# Altium integrated library micro-siemens.IntLib: 88 symbols (part 2 of 3)
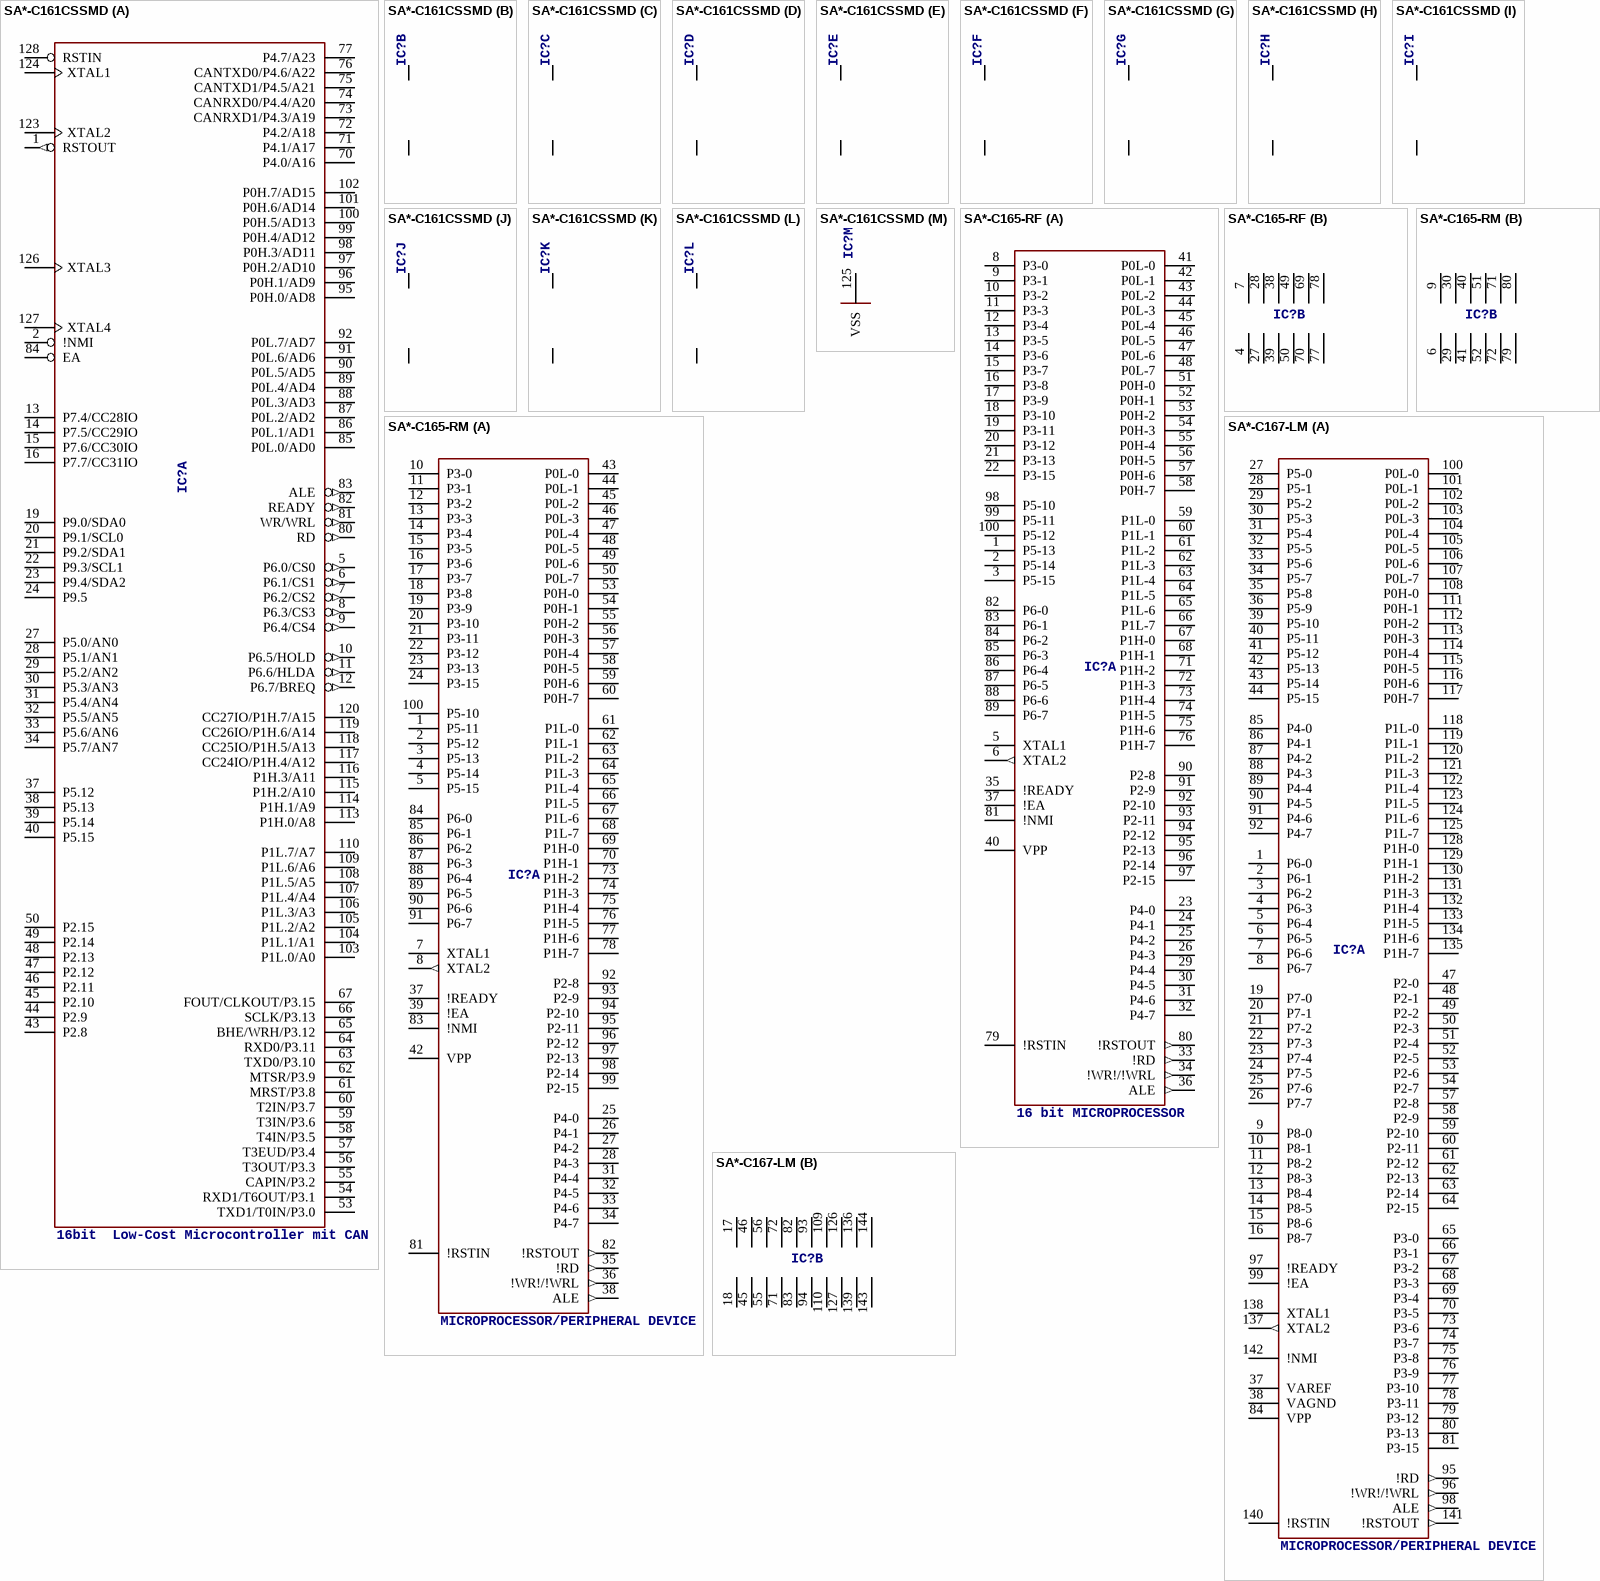
[diagram p30: symbols SA*-C161CSSMD to SA*-C167-LM]

## SA*-C165-RM
designator IC?, comment MICROPROCESSOR/PERIPHERAL DEVICE
OC_FARNELL: unknown; OC_NEWARK: unknown
footprint MQFP100
part A pins: 1 P5-11, 2 P5-12, 3 P5-13, 4 P5-14, 5 P5-15, 7 XTAL1, 8 XTAL2 (out), 10 P3-0, 11 P3-1, 12 P3-2, 13 P3-3, 14 P3-4, 15 P3-5, 16 P3-6, 17 P3-7, 18 P3-8, 19 P3-9, 20 P3-10, 21 P3-11, 22 P3-12, 23 P3-13, 24 P3-15, 25 P4-0, 26 P4-1, 27 P4-2, 28 P4-3, 31 P4-4, 32 P4-5, 33 P4-6, 34 P4-7, 35 !RD (out), 36 !WR!/!WRL (out), 37 !READY, 38 ALE (out), 39 !EA, 42 VPP, 43 P0L-0, 44 P0L-1, 45 P0L-2, 46 P0L-3, 47 P0L-4, 48 P0L-5, 49 P0L-6, 50 P0L-7, 53 P0H-0, 54 P0H-1, 55 P0H-2, 56 P0H-3, 57 P0H-4, 58 P0H-5, 59 P0H-6, 60 P0H-7, 61 P1L-0, 62 P1L-1, 63 P1L-2, 64 P1L-3, 65 P1L-4, 66 P1L-5, 67 P1L-6, 68 P1L-7, 69 P1H-0, 70 P1H-1, 73 P1H-2, 74 P1H-3, 75 P1H-4, 76 P1H-5, 77 P1H-6, 78 P1H-7, 81 !RSTIN, 82 !RSTOUT (out), 83 !NMI, 84 P6-0, 85 P6-1, 86 P6-2, 87 P6-3, 88 P6-4, 89 P6-5, 90 P6-6, 91 P6-7, 92 P2-8, 93 P2-9, 94 P2-10, 95 P2-11, 96 P2-12, 97 P2-13, 98 P2-14, 99 P2-15, 100 P5-10
part B pins: 6 VSS@1 (power), 9 VCC@1 (power), 29 VSS@2 (power), 30 VCC@2 (power), 40 VCC@3 (power), 41 VSS@3 (power), 51 VCC@4 (power), 52 VSS@4 (power), 71 VCC@5 (power), 72 VSS@5 (power), 79 VSS@6 (power), 80 VCC@6 (power)

## SA*-C167-LM
designator IC?, comment MICROPROCESSOR/PERIPHERAL DEVICE
MPN: SAK-C167CR-LM HA; OC_FARNELL: unknown; OC_NEWARK: unknown; OC_FARNELL: 1220083; OC_NEWARK: 24M7191
footprint MQFP144-RND
part A pins: 1 P6-0, 2 P6-1, 3 P6-2, 4 P6-3, 5 P6-4, 6 P6-5, 7 P6-6, 8 P6-7, 9 P8-0, 10 P8-1, 11 P8-2, 12 P8-3, 13 P8-4, 14 P8-5, 15 P8-6, 16 P8-7, 19 P7-0, 20 P7-1, 21 P7-2, 22 P7-3, 23 P7-4, 24 P7-5, 25 P7-6, 26 P7-7, 27 P5-0, 28 P5-1, 29 P5-2, 30 P5-3, 31 P5-4, 32 P5-5, 33 P5-6, 34 P5-7, 35 P5-8, 36 P5-9, 37 VAREF, 38 VAGND, 39 P5-10, 40 P5-11, 41 P5-12, 42 P5-13, 43 P5-14, 44 P5-15, 47 P2-0, 48 P2-1, 49 P2-2, 50 P2-3, 51 P2-4, 52 P2-5, 53 P2-6, 54 P2-7, 57 P2-8, 58 P2-9, 59 P2-10, 60 P2-11, 61 P2-12, 62 P2-13, 63 P2-14, 64 P2-15, 65 P3-0, 66 P3-1, 67 P3-2, 68 P3-3, 69 P3-4, 70 P3-5, 73 P3-6, 74 P3-7, 75 P3-8, 76 P3-9, 77 P3-10, 78 P3-11, 79 P3-12, 80 P3-13, 81 P3-15, 84 VPP, 85 P4-0, 86 P4-1, 87 P4-2, 88 P4-3, 89 P4-4, 90 P4-5, 91 P4-6, 92 P4-7, 95 !RD (out), 96 !WR!/!WRL (out), 97 !READY, 98 ALE (out), 99 !EA, 100 P0L-0, 101 P0L-1, 102 P0L-2, 103 P0L-3, 104 P0L-4, 105 P0L-5, 106 P0L-6, 107 P0L-7, 108 P0H-0, 111 P0H-1, 112 P0H-2, 113 P0H-3, 114 P0H-4, 115 P0H-5, 116 P0H-6, 117 P0H-7, 118 P1L-0, 119 P1L-1, 120 P1L-2, 121 P1L-3, 122 P1L-4, 123 P1L-5, 124 P1L-6, 125 P1L-7, 128 P1H-0, 129 P1H-1, 130 P1H-2, 131 P1H-3, 132 P1H-4, 133 P1H-5, 134 P1H-6, 135 P1H-7, 137 XTAL2 (out), 138 XTAL1, 140 !RSTIN, 141 !RSTOUT (out), 142 !NMI
part B pins: 17 VCC@1 (power), 18 VSS@1 (power), 45 VSS@2 (power), 46 VCC@2 (power), 55 VSS@3 (power), 56 VCC@3 (power), 71 VSS@4 (power), 72 VCC@4 (power), 82 VCC@5 (power), 83 VSS@5 (power), 93 VCC@6 (power), 94 VSS@6 (power), 109 VCC@7 (power), 110 VSS@7 (power), 126 VCC@8 (power), 127 VSS@8 (power), 136 VCC@9 (power), 139 VSS@9 (power), 143 VSS@10 (power), 144 VCC@10 (power)

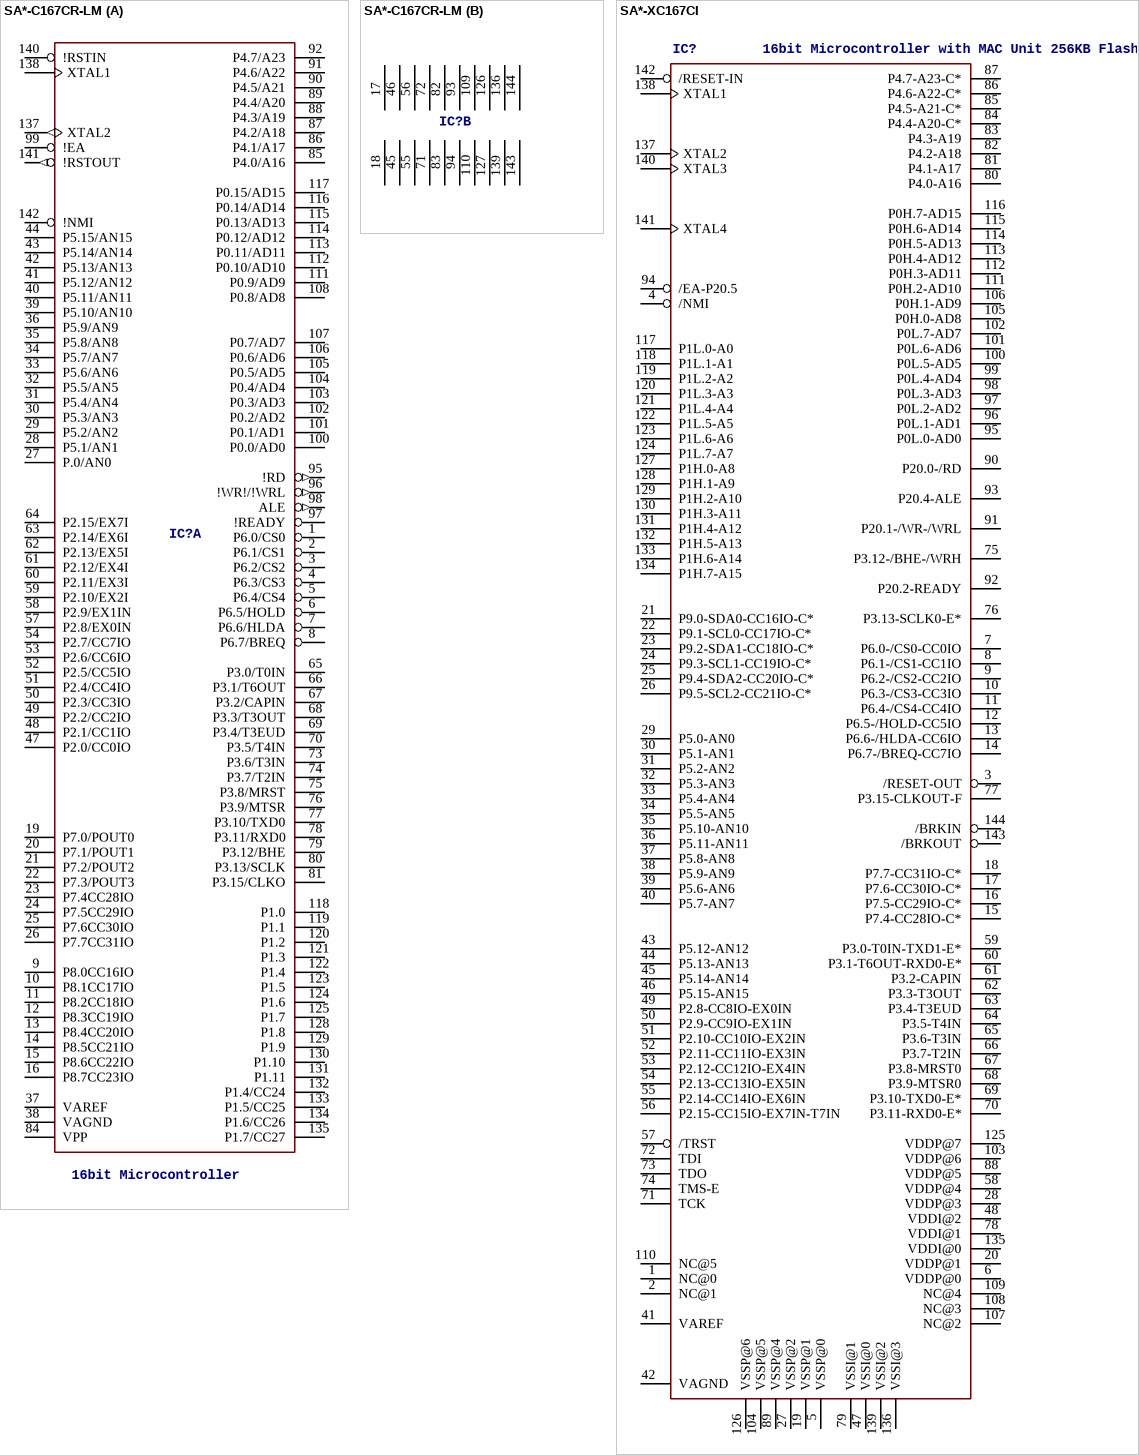
[diagram p11: symbols SA*-C167CR-LM to SA*-XC167CI]

## SA*-C167CR-LM
designator IC?, comment 16bit Microcontroller
MPN: SAK-C167CR-LM HA; OC_FARNELL: unknown; OC_NEWARK: unknown; OC_FARNELL: 1220083; OC_NEWARK: 24M7191
footprint MQFP144-RND
part A pins: 1 P6.0/CS0, 2 P6.1/CS1, 3 P6.2/CS2, 4 P6.3/CS3, 5 P6.4/CS4, 6 P6.5/HOLD, 7 P6.6/HLDA, 8 P6.7/BREQ, 9 P8.0CC16IO, 10 P8.1CC17IO, 11 P8.2CC18IO, 12 P8.3CC19IO, 13 P8.4CC20IO, 14 P8.5CC21IO, 15 P8.6CC22IO, 16 P8.7CC23IO, 19 P7.0/POUT0, 20 P7.1/POUT1, 21 P7.2/POUT2, 22 P7.3/POUT3, 23 P7.4CC28IO, 24 P7.5CC29IO, 25 P7.6CC30IO, 26 P7.7CC31IO, 27 P.0/AN0, 28 P5.1/AN1, 29 P5.2/AN2, 30 P5.3/AN3, 31 P5.4/AN4, 32 P5.5/AN5, 33 P5.6/AN6, 34 P5.7/AN7, 35 P5.8/AN8, 36 P5.9/AN9, 37 VAREF, 38 VAGND, 39 P5.10/AN10, 40 P5.11/AN11, 41 P5.12/AN12, 42 P5.13/AN13, 43 P5.14/AN14, 44 P5.15/AN15, 47 P2.0/CC0IO, 48 P2.1/CC1IO, 49 P2.2/CC2IO, 50 P2.3/CC3IO, 51 P2.4/CC4IO, 52 P2.5/CC5IO, 53 P2.6/CC6IO, 54 P2.7/CC7IO, 57 P2.8/EX0IN, 58 P2.9/EX1IN, 59 P2.10/EX2I, 60 P2.11/EX3I, 61 P2.12/EX4I, 62 P2.13/EX5I, 63 P2.14/EX6I, 64 P2.15/EX7I, 65 P3.0/T0IN, 66 P3.1/T6OUT, 67 P3.2/CAPIN, 68 P3.3/T3OUT, 69 P3.4/T3EUD, 70 P3.5/T4IN, 73 P3.6/T3IN, 74 P3.7/T2IN, 75 P3.8/MRST, 76 P3.9/MTSR, 77 P3.10/TXD0, 78 P3.11/RXD0, 79 P3.12/BHE, 80 P3.13/SCLK, 81 P3.15/CLKO, 84 VPP, 85 P4.0/A16, 86 P4.1/A17, 87 P4.2/A18, 88 P4.3/A19, 89 P4.4/A20, 90 P4.5/A21, 91 P4.6/A22, 92 P4.7/A23, 95 !RD (out), 96 !WR!/!WRL (out), 97 !READY, 98 ALE (out), 99 !EA, 100 P0.0/AD0, 101 P0.1/AD1, 102 P0.2/AD2, 103 P0.3/AD3, 104 P0.4/AD4, 105 P0.5/AD5, 106 P0.6/AD6, 107 P0.7/AD7, 108 P0.8/AD8, 111 P0.9/AD9, 112 P0.10/AD10, 113 P0.11/AD11, 114 P0.12/AD12, 115 P0.13/AD13, 116 P0.14/AD14, 117 P0.15/AD15, 118 P1.0, 119 P1.1, 120 P1.2, 121 P1.3, 122 P1.4, 123 P1.5, 124 P1.6, 125 P1.7, 128 P1.8, 129 P1.9, 130 P1.10, 131 P1.11, 132 P1.4/CC24, 133 P1.5/CC25, 134 P1.6/CC26, 135 P1.7/CC27, 137 XTAL2 (out), 138 XTAL1, 140 !RSTIN, 141 !RSTOUT (out), 142 !NMI
part B pins: 17 VCC@1 (power), 18 VSS@1 (power), 45 VSS@2 (power), 46 VCC@2 (power), 55 VSS@3 (power), 56 VCC@3 (power), 71 VSS@4 (power), 72 VCC@4 (power), 82 VCC@5 (power), 83 VSS@5 (power), 93 VCC@6 (power), 94 VSS@6 (power), 109 VCC@7 (power), 110 VSS@7 (power), 126 VCC@8 (power), 127 VSS@8 (power), 136 VCC@9 (power), 139 VSS@9 (power), 143 VSS@10 (power), 144 VCC@10 (power)

## SA*-XC167CI
designator IC?, comment 16bit Microcontroller with MAC Unit 256KB Flash
OC_FARNELL: unknown; OC_NEWARK: unknown
footprint P-TQFP144
pins: 1 NC@0, 2 NC@1, 3 /RESET-OUT, 4 /NMI, 5 VSSP@0 (power), 6 VDDP@0 (power), 7 P6.0-/CS0-CC0IO, 8 P6.1-/CS1-CC1IO, 9 P6.2-/CS2-CC2IO, 10 P6.3-/CS3-CC3IO, 11 P6.4-/CS4-CC4IO, 12 P6.5-/HOLD-CC5IO, 13 P6.6-/HLDA-CC6IO, 14 P6.7-/BREQ-CC7IO, 15 P7.4-CC28IO-C*, 16 P7.5-CC29IO-C*, 17 P7.6-CC30IO-C*, 18 P7.7-CC31IO-C*, 19 VSSP@1 (power), 20 VDDP@1 (power), 21 P9.0-SDA0-CC16IO-C*, 22 P9.1-SCL0-CC17IO-C*, 23 P9.2-SDA1-CC18IO-C*, 24 P9.3-SCL1-CC19IO-C*, 25 P9.4-SDA2-CC20IO-C*, 26 P9.5-SCL2-CC21IO-C*, 27 VSSP@2 (power), 28 VDDP@3 (power), 29 P5.0-AN0, 30 P5.1-AN1, 31 P5.2-AN2, 32 P5.3-AN3, 33 P5.4-AN4, 34 P5.5-AN5, 35 P5.10-AN10, 36 P5.11-AN11, 37 P5.8-AN8, 38 P5.9-AN9, 39 P5.6-AN6, 40 P5.7-AN7, 41 VAREF, 42 VAGND, 43 P5.12-AN12, 44 P5.13-AN13, 45 P5.14-AN14, 46 P5.15-AN15, 47 VSSI@0 (power), 48 VDDI@2 (power), 49 P2.8-CC8IO-EX0IN, 50 P2.9-CC9IO-EX1IN, 51 P2.10-CC10IO-EX2IN, 52 P2.11-CC11IO-EX3IN, 53 P2.12-CC12IO-EX4IN, 54 P2.13-CC13IO-EX5IN, 55 P2.14-CC14IO-EX6IN, 56 P2.15-CC15IO-EX7IN-T7IN, 57 /TRST, 58 VDDP@4 (power), 59 P3.0-T0IN-TXD1-E*, 60 P3.1-T6OUT-RXD0-E*, 61 P3.2-CAPIN, 62 P3.3-T3OUT, 63 P3.4-T3EUD, 64 P3.5-T4IN, 65 P3.6-T3IN, 66 P3.7-T2IN, 67 P3.8-MRST0, 68 P3.9-MTSR0, 69 P3.10-TXD0-E*, 70 P3.11-RXD0-E*, 71 TCK, 72 TDI, 73 TDO, 74 TMS-E, 75 P3.12-/BHE-/WRH, 76 P3.13-SCLK0-E*, 77 P3.15-CLKOUT-F, 78 VDDI@1 (power), 79 VSSI@1 (power), 80 P4.0-A16, 81 P4.1-A17, 82 P4.2-A18, 83 P4.3-A19, 84 P4.4-A20-C*, 85 P4.5-A21-C*, 86 P4.6-A22-C*, 87 P4.7-A23-C*, 88 VDDP@5 (power), 89 VSSP@4 (power), 90 P20.0-/RD, 91 P20.1-/WR-/WRL, 92 P20.2-READY, 93 P20.4-ALE, 94 /EA-P20.5, 95 P0L.0-AD0, 96 P0L.1-AD1, 97 P0L.2-AD2, 98 P0L.3-AD3, 99 P0L.4-AD4, 100 P0L.5-AD5, 101 P0L.6-AD6, 102 P0L.7-AD7, 103 VDDP@6 (power), 104 VSSP@5 (power), 105 P0H.0-AD8, 106 P0H.1-AD9, 107 NC@2, 108 NC@3, 109 NC@4, 110 NC@5, 111 P0H.2-AD10, 112 P0H.3-AD11, 113 P0H.4-AD12, 114 P0H.5-AD13, 115 P0H.6-AD14, 116 P0H.7-AD15, 117 P1L.0-A0, 118 P1L.1-A1, 119 P1L.2-A2, 120 P1L.3-A3, 121 P1L.4-A4, 122 P1L.5-A5, 123 P1L.6-A6, 124 P1L.7-A7, 125 VDDP@7 (power), 126 VSSP@6 (power), 127 P1H.0-A8, 128 P1H.1-A9, 129 P1H.2-A10, 130 P1H.3-A11, 131 P1H.4-A12, 132 P1H.5-A13, 133 P1H.6-A14, 134 P1H.7-A15, 135 VDDI@0 (power), 136 VSSI@3 (power), 137 XTAL2, 138 XTAL1, 139 VSSI@2 (power), 140 XTAL3, 141 XTAL4, 142 /RESET-IN, 143 /BRKOUT, 144 /BRKIN

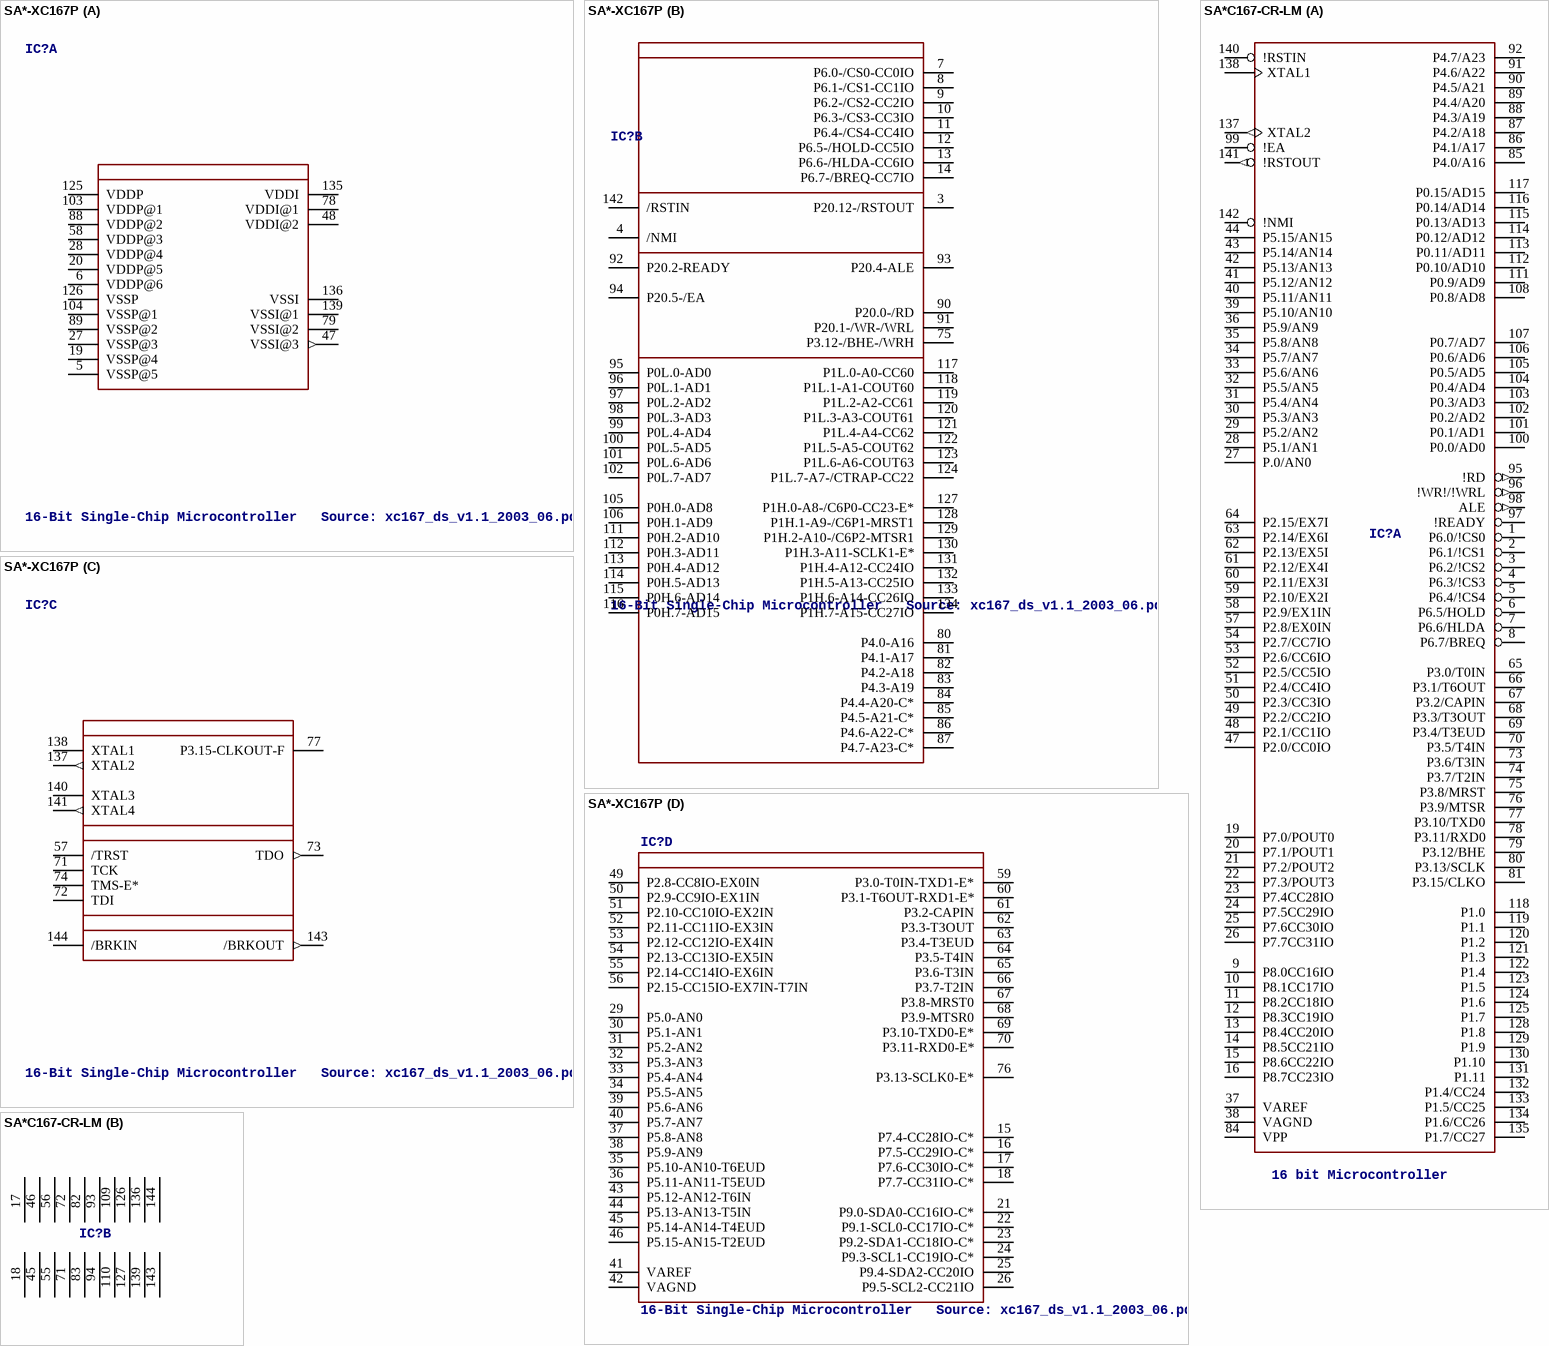
[diagram p12: symbols SA*-XC167P to SA*C167-CR-LM]

## SA*-XC167P
designator IC?, comment 16-Bit Single-Chip Microcontroller   Source: xc167_ds_v1.1_2003_06.pdf
OC_FARNELL: unknown; OC_NEWARK: unknown
footprint P-TQFP-144-19
part A pins: 5 VSSP@5 (power), 6 VDDP@6 (power), 19 VSSP@4 (power), 20 VDDP@5 (power), 27 VSSP@3 (power), 28 VDDP@4 (power), 47 VSSI@3 (out), 48 VDDI@2 (power), 58 VDDP@3 (power), 78 VDDI@1 (power), 79 VSSI@2 (power), 88 VDDP@2 (power), 89 VSSP@2 (power), 103 VDDP@1 (power), 104 VSSP@1 (power), 125 VDDP (power), 126 VSSP (power), 135 VDDI (power), 136 VSSI (power), 139 VSSI@1 (power)
part B pins: 3 P20.12-/RSTOUT, 4 /NMI, 7 P6.0-/CS0-CC0IO, 8 P6.1-/CS1-CC1IO, 9 P6.2-/CS2-CC2IO, 10 P6.3-/CS3-CC3IO, 11 P6.4-/CS4-CC4IO, 12 P6.5-/HOLD-CC5IO, 13 P6.6-/HLDA-CC6IO, 14 P6.7-/BREQ-CC7IO, 75 P3.12-/BHE-/WRH, 80 P4.0-A16, 81 P4.1-A17, 82 P4.2-A18, 83 P4.3-A19, 84 P4.4-A20-C*, 85 P4.5-A21-C*, 86 P4.6-A22-C*, 87 P4.7-A23-C*, 90 P20.0-/RD, 91 P20.1-/WR-/WRL, 92 P20.2-READY, 93 P20.4-ALE, 94 P20.5-/EA, 95 P0L.0-AD0, 96 P0L.1-AD1, 97 P0L.2-AD2, 98 P0L.3-AD3, 99 P0L.4-AD4, 100 P0L.5-AD5, 101 P0L.6-AD6, 102 P0L.7-AD7, 105 P0H.0-AD8, 106 P0H.1-AD9, 111 P0H.2-AD10, 112 P0H.3-AD11, 113 P0H.4-AD12, 114 P0H.5-AD13, 115 P0H.6-AD14, 116 P0H.7-AD15, 117 P1L.0-A0-CC60, 118 P1L.1-A1-COUT60, 119 P1L.2-A2-CC61, 120 P1L.3-A3-COUT61, 121 P1L.4-A4-CC62, 122 P1L.5-A5-COUT62, 123 P1L.6-A6-COUT63, 124 P1L.7-A7-/CTRAP-CC22, 127 P1H.0-A8-/C6P0-CC23-E*, 128 P1H.1-A9-/C6P1-MRST1, 129 P1H.2-A10-/C6P2-MTSR1, 130 P1H.3-A11-SCLK1-E*, 131 P1H.4-A12-CC24IO, 132 P1H.5-A13-CC25IO, 133 P1H.6-A14-CC26IO, 134 P1H.7-A15-CC27IO, 142 /RSTIN
part C pins: 57 /TRST, 71 TCK, 72 TDI, 73 TDO (out), 74 TMS-E*, 77 P3.15-CLKOUT-F, 137 XTAL2 (out), 138 XTAL1, 140 XTAL3, 141 XTAL4 (out), 143 /BRKOUT (out), 144 /BRKIN
part D pins: 15 P7.4-CC28IO-C*, 16 P7.5-CC29IO-C*, 17 P7.6-CC30IO-C*, 18 P7.7-CC31IO-C*, 21 P9.0-SDA0-CC16IO-C*, 22 P9.1-SCL0-CC17IO-C*, 23 P9.2-SDA1-CC18IO-C*, 24 P9.3-SCL1-CC19IO-C*, 25 P9.4-SDA2-CC20IO, 26 P9.5-SCL2-CC21IO, 29 P5.0-AN0, 30 P5.1-AN1, 31 P5.2-AN2, 32 P5.3-AN3, 33 P5.4-AN4, 34 P5.5-AN5, 35 P5.10-AN10-T6EUD, 36 P5.11-AN11-T5EUD, 37 P5.8-AN8, 38 P5.9-AN9, 39 P5.6-AN6, 40 P5.7-AN7, 41 VAREF, 42 VAGND, 43 P5.12-AN12-T6IN, 44 P5.13-AN13-T5IN, 45 P5.14-AN14-T4EUD, 46 P5.15-AN15-T2EUD, 49 P2.8-CC8IO-EX0IN, 50 P2.9-CC9IO-EX1IN, 51 P2.10-CC10IO-EX2IN, 52 P2.11-CC11IO-EX3IN, 53 P2.12-CC12IO-EX4IN, 54 P2.13-CC13IO-EX5IN, 55 P2.14-CC14IO-EX6IN, 56 P2.15-CC15IO-EX7IN-T7IN, 59 P3.0-T0IN-TXD1-E*, 60 P3.1-T6OUT-RXD1-E*, 61 P3.2-CAPIN, 62 P3.3-T3OUT, 63 P3.4-T3EUD, 64 P3.5-T4IN, 65 P3.6-T3IN, 66 P3.7-T2IN, 67 P3.8-MRST0, 68 P3.9-MTSR0, 69 P3.10-TXD0-E*, 70 P3.11-RXD0-E*, 76 P3.13-SCLK0-E*

## SA*C167-CR-LM
designator IC?, comment 16 bit Microcontroller
OC_FARNELL: unknown; OC_NEWARK: unknown
footprint MQFP144-RND
part A pins: 1 P6.0/!CS0, 2 P6.1/!CS1, 3 P6.2/!CS2, 4 P6.3/!CS3, 5 P6.4/!CS4, 6 P6.5/HOLD, 7 P6.6/HLDA, 8 P6.7/BREQ, 9 P8.0CC16IO, 10 P8.1CC17IO, 11 P8.2CC18IO, 12 P8.3CC19IO, 13 P8.4CC20IO, 14 P8.5CC21IO, 15 P8.6CC22IO, 16 P8.7CC23IO, 19 P7.0/POUT0, 20 P7.1/POUT1, 21 P7.2/POUT2, 22 P7.3/POUT3, 23 P7.4CC28IO, 24 P7.5CC29IO, 25 P7.6CC30IO, 26 P7.7CC31IO, 27 P.0/AN0, 28 P5.1/AN1, 29 P5.2/AN2, 30 P5.3/AN3, 31 P5.4/AN4, 32 P5.5/AN5, 33 P5.6/AN6, 34 P5.7/AN7, 35 P5.8/AN8, 36 P5.9/AN9, 37 VAREF, 38 VAGND, 39 P5.10/AN10, 40 P5.11/AN11, 41 P5.12/AN12, 42 P5.13/AN13, 43 P5.14/AN14, 44 P5.15/AN15, 47 P2.0/CC0IO, 48 P2.1/CC1IO, 49 P2.2/CC2IO, 50 P2.3/CC3IO, 51 P2.4/CC4IO, 52 P2.5/CC5IO, 53 P2.6/CC6IO, 54 P2.7/CC7IO, 57 P2.8/EX0IN, 58 P2.9/EX1IN, 59 P2.10/EX2I, 60 P2.11/EX3I, 61 P2.12/EX4I, 62 P2.13/EX5I, 63 P2.14/EX6I, 64 P2.15/EX7I, 65 P3.0/T0IN, 66 P3.1/T6OUT, 67 P3.2/CAPIN, 68 P3.3/T3OUT, 69 P3.4/T3EUD, 70 P3.5/T4IN, 73 P3.6/T3IN, 74 P3.7/T2IN, 75 P3.8/MRST, 76 P3.9/MTSR, 77 P3.10/TXD0, 78 P3.11/RXD0, 79 P3.12/BHE, 80 P3.13/SCLK, 81 P3.15/CLKO, 84 VPP, 85 P4.0/A16, 86 P4.1/A17, 87 P4.2/A18, 88 P4.3/A19, 89 P4.4/A20, 90 P4.5/A21, 91 P4.6/A22, 92 P4.7/A23, 95 !RD (out), 96 !WR!/!WRL (out), 97 !READY, 98 ALE (out), 99 !EA, 100 P0.0/AD0, 101 P0.1/AD1, 102 P0.2/AD2, 103 P0.3/AD3, 104 P0.4/AD4, 105 P0.5/AD5, 106 P0.6/AD6, 107 P0.7/AD7, 108 P0.8/AD8, 111 P0.9/AD9, 112 P0.10/AD10, 113 P0.11/AD11, 114 P0.12/AD12, 115 P0.13/AD13, 116 P0.14/AD14, 117 P0.15/AD15, 118 P1.0, 119 P1.1, 120 P1.2, 121 P1.3, 122 P1.4, 123 P1.5, 124 P1.6, 125 P1.7, 128 P1.8, 129 P1.9, 130 P1.10, 131 P1.11, 132 P1.4/CC24, 133 P1.5/CC25, 134 P1.6/CC26, 135 P1.7/CC27, 137 XTAL2 (out), 138 XTAL1, 140 !RSTIN, 141 !RSTOUT (out), 142 !NMI
part B pins: 17 VCC@1 (power), 18 VSS@1 (power), 45 VSS@2 (power), 46 VCC@2 (power), 55 VSS@3 (power), 56 VCC@3 (power), 71 VSS@4 (power), 72 VCC@4 (power), 82 VCC@5 (power), 83 VSS@5 (power), 93 VCC@6 (power), 94 VSS@6 (power), 109 VCC@7 (power), 110 VSS@7 (power), 126 VCC@8 (power), 127 VSS@8 (power), 136 VCC@9 (power), 139 VSS@9 (power), 143 VSS@10 (power), 144 VCC@10 (power)

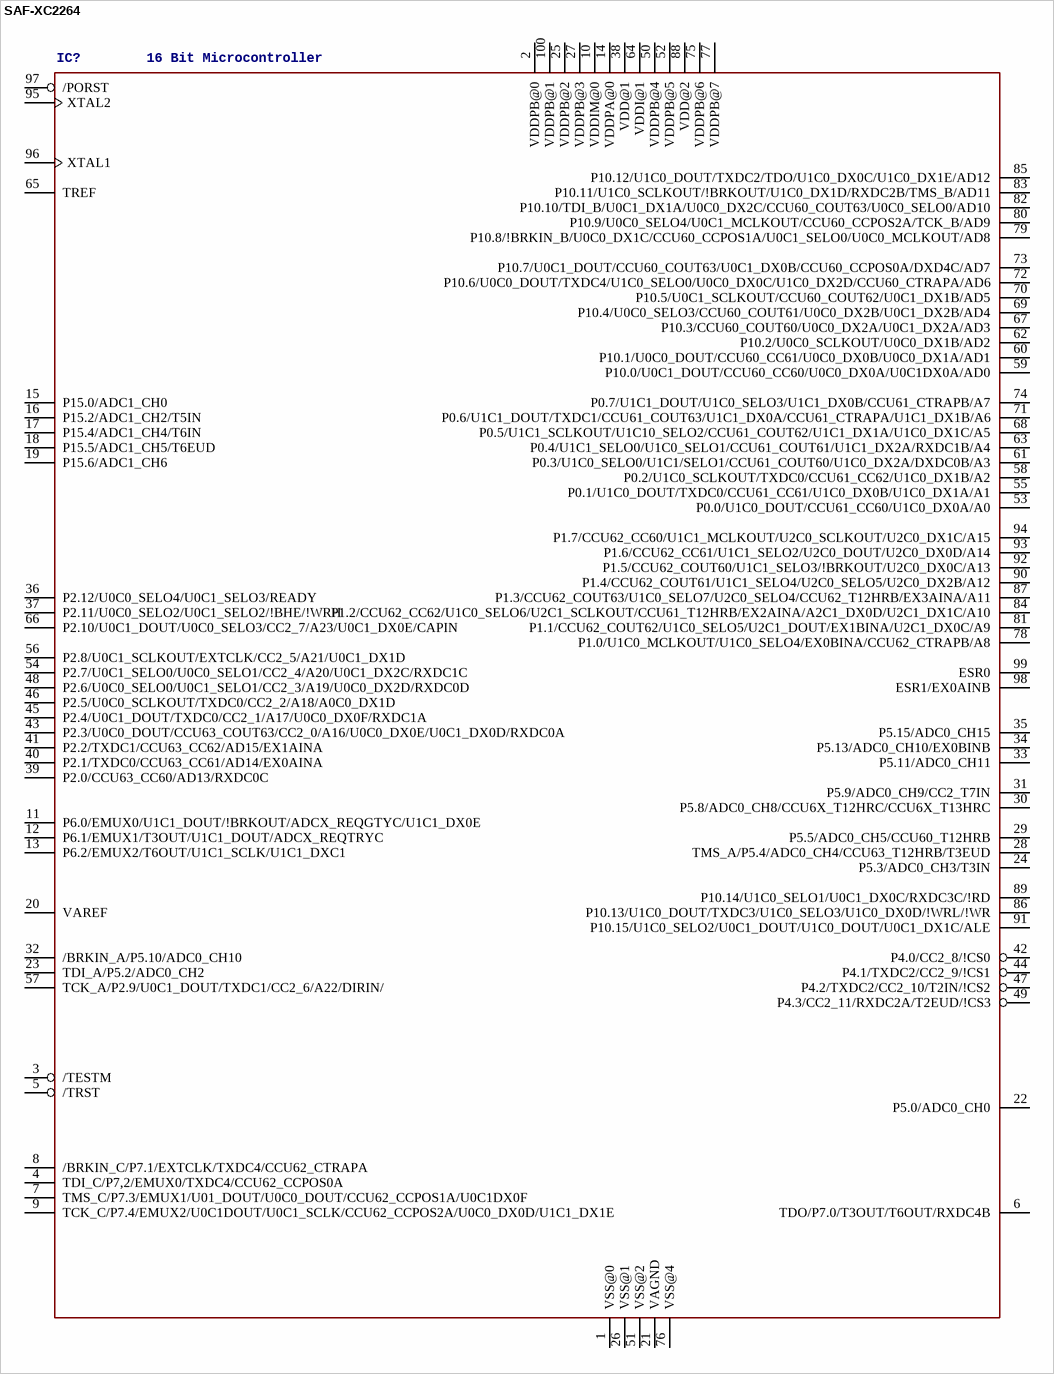
[diagram p13: symbol SAF-XC2264]

## SAF-XC2264
designator IC?, comment 16 Bit Microcontroller
OC_FARNELL: unknown; OC_NEWARK: unknown
footprint TQFP100
pins: 1 VSS@0 (power), 2 VDDPB@0 (power), 3 /TESTM, 4 TDI_C/P7,2/EMUX0/TXDC4/CCU62_CCPOS0A, 5 /TRST, 6 TDO/P7.0/T3OUT/T6OUT/RXDC4B, 7 TMS_C/P7.3/EMUX1/U01_DOUT/U0C0_DOUT/CCU62_CCPOS1A/U0C1DX0F, 8 /BRKIN_C/P7.1/EXTCLK/TXDC4/CCU62_CTRAPA, 9 TCK_C/P7.4/EMUX2/U0C1DOUT/U0C1_SCLK/CCU62_CCPOS2A/U0C0_DX0D/U1C1_DX1E, 10 VDDIM@0, 11 P6.0/EMUX0/U1C1_DOUT/!BRKOUT/ADCX_REQGTYC/U1C1_DX0E, 12 P6.1/EMUX1/T3OUT/U1C1_DOUT/ADCX_REQTRYC, 13 P6.2/EMUX2/T6OUT/U1C1_SCLK/U1C1_DXC1, 14 VDDPA@0, 15 P15.0/ADC1_CH0, 16 P15.2/ADC1_CH2/T5IN, 17 P15.4/ADC1_CH4/T6IN, 18 P15.5/ADC1_CH5/T6EUD, 19 P15.6/ADC1_CH6, 20 VAREF, 21 VAGND, 22 P5.0/ADC0_CH0, 23 TDI_A/P5.2/ADC0_CH2, 24 P5.3/ADC0_CH3/T3IN, 25 VDDPB@2, 26 VSS@1, 27 VDDPB@3, 28 TMS_A/P5.4/ADC0_CH4/CCU63_T12HRB/T3EUD, 29 P5.5/ADC0_CH5/CCU60_T12HRB, 30 P5.8/ADC0_CH8/CCU6X_T12HRC/CCU6X_T13HRC, 31 P5.9/ADC0_CH9/CC2_T7IN, 32 /BRKIN_A/P5.10/ADC0_CH10, 33 P5.11/ADC0_CH11, 34 P5.13/ADC0_CH10/EX0BINB, 35 P5.15/ADC0_CH15, 36 P2.12/U0C0_SELO4/U0C1_SELO3/READY, 37 P2.11/U0C0_SELO2/U0C1_SELO2/!BHE/!WRH, 38 VDD@1, 39 P2.0/CCU63_CC60/AD13/RXDC0C, 40 P2.1/TXDC0/CCU63_CC61/AD14/EX0AINA, 41 P2.2/TXDC1/CCU63_CC62/AD15/EX1AINA, 42 P4.0/CC2_8/!CS0, 43 P2.3/U0C0_DOUT/CCU63_COUT63/CC2_0/A16/U0C0_DX0E/U0C1_DX0D/RXDC0A, 44 P4.1/TXDC2/CC2_9/!CS1, 45 P2.4/U0C1_DOUT/TXDC0/CC2_1/A17/U0C0_DX0F/RXDC1A, 46 P2.5/U0C0_SCLKOUT/TXDC0/CC2_2/A18/A0C0_DX1D, 47 P4.2/TXDC2/CC2_10/T2IN/!CS2, 48 P2.6/U0C0_SELO0/U0C1_SELO1/CC2_3/A19/U0C0_DX2D/RXDC0D, 49 P4.3/CC2_11/RXDC2A/T2EUD/!CS3, 50 VDDPB@4, 51 VSS@2, 52 VDDPB@5, 53 P0.0/U1C0_DOUT/CCU61_CC60/U1C0_DX0A/A0, 54 P2.7/U0C1_SELO0/U0C0_SELO1/CC2_4/A20/U0C1_DX2C/RXDC1C, 55 P0.1/U1C0_DOUT/TXDC0/CCU61_CC61/U1C0_DX0B/U1C0_DX1A/A1, 56 P2.8/U0C1_SCLKOUT/EXTCLK/CC2_5/A21/U0C1_DX1D, 57 TCK_A/P2.9/U0C1_DOUT/TXDC1/CC2_6/A22/DIRIN/, 58 P0.2/U1C0_SCLKOUT/TXDC0/CCU61_CC62/U1C0_DX1B/A2, 59 P10.0/U0C1_DOUT/CCU60_CC60/U0C0_DX0A/U0C1DX0A/AD0, 60 P10.1/U0C0_DOUT/CCU60_CC61/U0C0_DX0B/U0C0_DX1A/AD1, 61 P0.3/U1C0_SELO0/U1C1/SELO1/CCU61_COUT60/U1C0_DX2A/DXDC0B/A3, 62 P10.2/U0C0_SCLKOUT/U0C0_DX1B/AD2, 63 P0.4/U1C1_SELO0/U1C0_SELO1/CCU61_COUT61/U1C1_DX2A/RXDC1B/A4, 64 VDDI@1, 65 TREF, 66 P2.10/U0C1_DOUT/U0C0_SELO3/CC2_7/A23/U0C1_DX0E/CAPIN, 67 P10.3/CCU60_COUT60/U0C0_DX2A/U0C1_DX2A/AD3, 68 P0.5/U1C1_SCLKOUT/U1C10_SELO2/CCU61_COUT62/U1C1_DX1A/U1C0_DX1C/A5, 69 P10.4/U0C0_SELO3/CCU60_COUT61/U0C0_DX2B/U0C1_DX2B/AD4, 70 P10.5/U0C1_SCLKOUT/CCU60_COUT62/U0C1_DX1B/AD5, 71 P0.6/U1C1_DOUT/TXDC1/CCU61_COUT63/U1C1_DX0A/CCU61_CTRAPA/U1C1_DX1B/A6, 72 P10.6/U0C0_DOUT/TXDC4/U1C0_SELO0/U0C0_DX0C/U1C0_DX2D/CCU60_CTRAPA/AD6, 73 P10.7/U0C1_DOUT/CCU60_COUT63/U0C1_DX0B/CCU60_CCPOS0A/DXD4C/AD7, 74 P0.7/U1C1_DOUT/U1C0_SELO3/U1C1_DX0B/CCU61_CTRAPB/A7, 75 VDDPB@6, 76 VSS@4, 77 VDDPB@7, 78 P1.0/U1C0_MCLKOUT/U1C0_SELO4/EX0BINA/CCU62_CTRAPB/A8, 79 P10.8/!BRKIN_B/U0C0_DX1C/CCU60_CCPOS1A/U0C1_SELO0/U0C0_MCLKOUT/AD8, 80 P10.9/U0C0_SELO4/U0C1_MCLKOUT/CCU60_CCPOS2A/TCK_B/AD9, 81 P1.1/CCU62_COUT62/U1C0_SELO5/U2C1_DOUT/EX1BINA/U2C1_DX0C/A9, 82 P10.10/TDI_B/U0C1_DX1A/U0C0_DX2C/CCU60_COUT63/U0C0_SELO0/AD10, 83 P10.11/U1C0_SCLKOUT/!BRKOUT/U1C0_DX1D/RXDC2B/TMS_B/AD11, 84 P1.2/CCU62_CC62/U1C0_SELO6/U2C1_SCLKOUT/CCU61_T12HRB/EX2AINA/A2C1_DX0D/U2C1_DX1C/A10, 85 P10.12/U1C0_DOUT/TXDC2/TDO/U1C0_DX0C/U1C0_DX1E/AD12, 86 P10.13/U1C0_DOUT/TXDC3/U1C0_SELO3/U1C0_DX0D/!WRL/!WR, 87 P1.3/CCU62_COUT63/U1C0_SELO7/U2C0_SELO4/CCU62_T12HRB/EX3AINA/A11, 88 VDD@2, 89 P10.14/U1C0_SELO1/U0C1_DX0C/RXDC3C/!RD, 90 P1.4/CCU62_COUT61/U1C1_SELO4/U2C0_SELO5/U2C0_DX2B/A12, 91 P10.15/U1C0_SELO2/U0C1_DOUT/U1C0_DOUT/U0C1_DX1C/ALE, 92 P1.5/CCU62_COUT60/U1C1_SELO3/!BRKOUT/U2C0_DX0C/A13, 93 P1.6/CCU62_CC61/U1C1_SELO2/U2C0_DOUT/U2C0_DX0D/A14, 94 P1.7/CCU62_CC60/U1C1_MCLKOUT/U2C0_SCLKOUT/U2C0_DX1C/A15, 95 XTAL2 (power), 96 XTAL1 (power), 97 /PORST, 98 ESR1/EX0AINB, 99 ESR0, 100 VDDPB@1 (power)

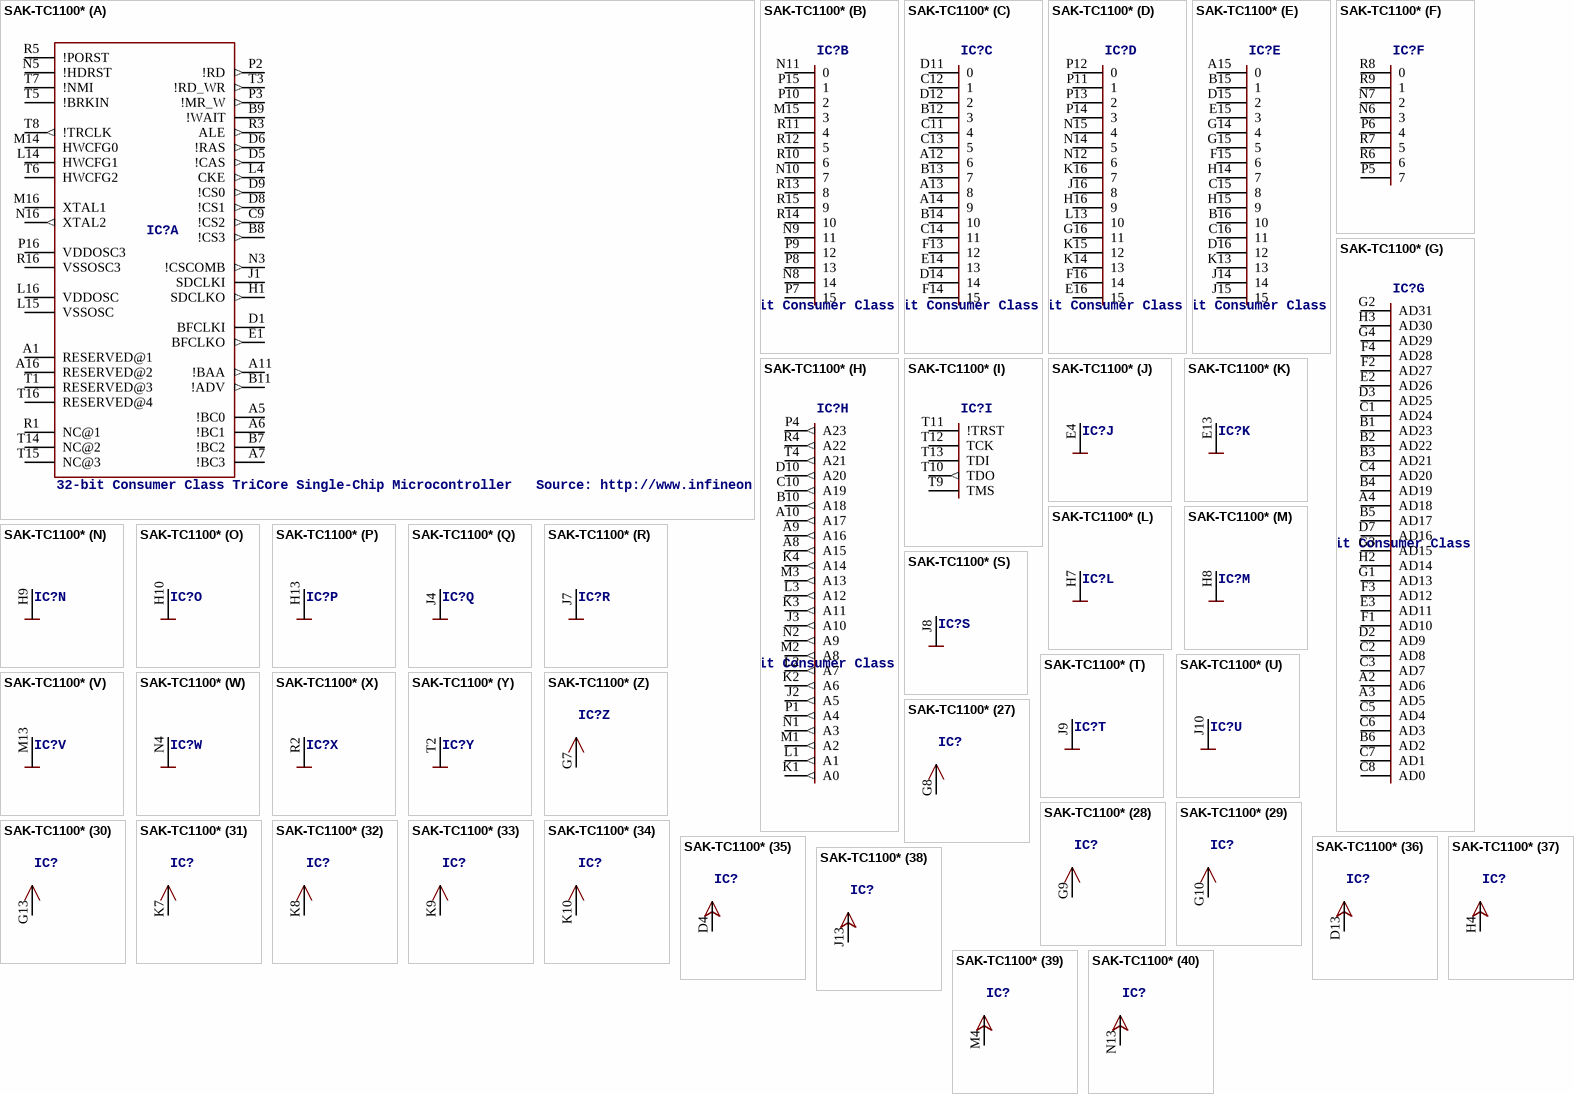
[diagram p14: symbol SAK-TC1100*]

## SAK-TC1100*
designator IC?, comment 32-bit Consumer Class TriCore Single-Chip Microcontroller   Source: http://www.infineon.com/cmc_upload/documents/010/9915/TC1100_umsu_v10.pdf
OC_FARNELL: unknown; OC_NEWARK: unknown
footprint P-LBGA-208-2
part A pins: A1 RESERVED@1, A5 !BC0, A6 !BC1, A7 !BC3, A11 !BAA (out), A16 RESERVED@2, B7 !BC2, B8 !CS3 (out), B9 !WAIT, B11 !ADV (out), C9 !CS2 (out), D1 BFCLKI, D5 !CAS (out), D6 !RAS (out), D8 !CS1 (out), D9 !CS0 (out), E1 BFCLKO (out), H1 SDCLKO (out), J1 SDCLKI, L4 CKE (out), L14 HWCFG1, L15 VSSOSC, L16 VDDOSC, M14 HWCFG0, M16 XTAL1, N3 !CSCOMB (out), N5 !HDRST, N16 XTAL2 (out), P2 !RD (out), P3 !MR_W (out), P16 VDDOSC3, R1 NC@1, R3 ALE (out), R5 !PORST, R16 VSSOSC3, T1 RESERVED@3, T3 !RD_WR (out), T5 !BRKIN, T6 HWCFG2, T7 !NMI, T8 !TRCLK (out), T14 NC@2, T15 NC@3, T16 RESERVED@4
part B pins: M15 3, N8 14, N9 11, N10 7, N11 0, P7 15, P8 13, P9 12, P10 2, P15 1, R10 6, R11 4, R12 5, R13 8, R14 10, R15 9
part C pins: A12 6, A13 8, A14 9, B12 3, B13 7, B14 10, C11 4, C12 1, C13 5, C14 11, D11 0, D12 2, D14 14, E14 13, F13 12, F14 15
part D pins: E16 15, F16 14, G16 11, H16 9, J16 8, K14 13, K15 12, K16 7, L13 10, N12 6, N14 5, N15 4, P11 1, P12 0, P13 2, P14 3
part E pins: A15 0, B15 1, B16 10, C15 8, C16 11, D15 2, D16 12, E15 3, F15 6, G14 4, G15 5, H14 7, H15 9, J14 14, J15 15, K13 13
part F pins: N6 3, N7 2, P5 7, P6 4, R6 6, R7 5, R8 0, R9 1
part G pins: A2 AD6, A3 AD5, A4 AD18, B1 AD23, B2 AD22, B3 AD21, B4 AD19, B5 AD17, B6 AD2, C1 AD24, C2 AD8, C3 AD7, C4 AD20, C5 AD4, C6 AD3, C7 AD1, C8 AD0, D2 AD9, D3 AD25, D7 AD16, E2 AD26, E3 AD11, F1 AD10, F2 AD27, F3 AD12, F4 AD28, G1 AD13, G2 AD31, G3 AD15, G4 AD29, H2 AD14, H3 AD30
part H pins: A8 A15 (out), A9 A16 (out), A10 A17 (out), B10 A18 (out), C10 A19 (out), D10 A20 (out), J2 A5 (out), J3 A10 (out), K1 A0 (out), K2 A6 (out), K3 A11 (out), K4 A14 (out), L1 A1 (out), L2 A7 (out), L3 A12 (out), M1 A2 (out), M2 A8 (out), M3 A13 (out), N1 A3 (out), N2 A9 (out), P1 A4 (out), P4 A23 (out), R4 A22 (out), T4 A21 (out)
part I pins: T9 TMS, T10 TDO (out), T11 !TRST, T12 TCK, T13 TDI
part J pins: E4 VSS (power)
part K pins: E13 VSS (power)
part L pins: H7 VSS (power)
part M pins: H8 VSS (power)
part N pins: H9 VSS (power)
part O pins: H10 VSS (power)
part P pins: H13 VSS (power)
part Q pins: J4 VSS (power)
part R pins: J7 VSS (power)
part S pins: J8 VSS (power)
part T pins: J9 VSS (power)
part U pins: J10 VSS (power)
part V pins: M13 VSS (power)
part W pins: N4 VSS (power)
part X pins: R2 VSS (power)
part Y pins: T2 VSS (power)
part Z pins: G7 VDD (power)
part 27 pins: G8 VDD (power)
part 28 pins: G9 VDD (power)
part 29 pins: G10 VDD (power)
part 30 pins: G13 VDD (power)
part 31 pins: K7 VDD (power)
part 32 pins: K8 VDD (power)
part 33 pins: K9 VDD (power)
part 34 pins: K10 VDD (power)
part 35 pins: D4 VDDP (power)
part 36 pins: D13 VDDP (power)
part 37 pins: H4 VDDP (power)
part 38 pins: J13 VDDP (power)
part 39 pins: M4 VDDP (power)
part 40 pins: N13 VDDP (power)

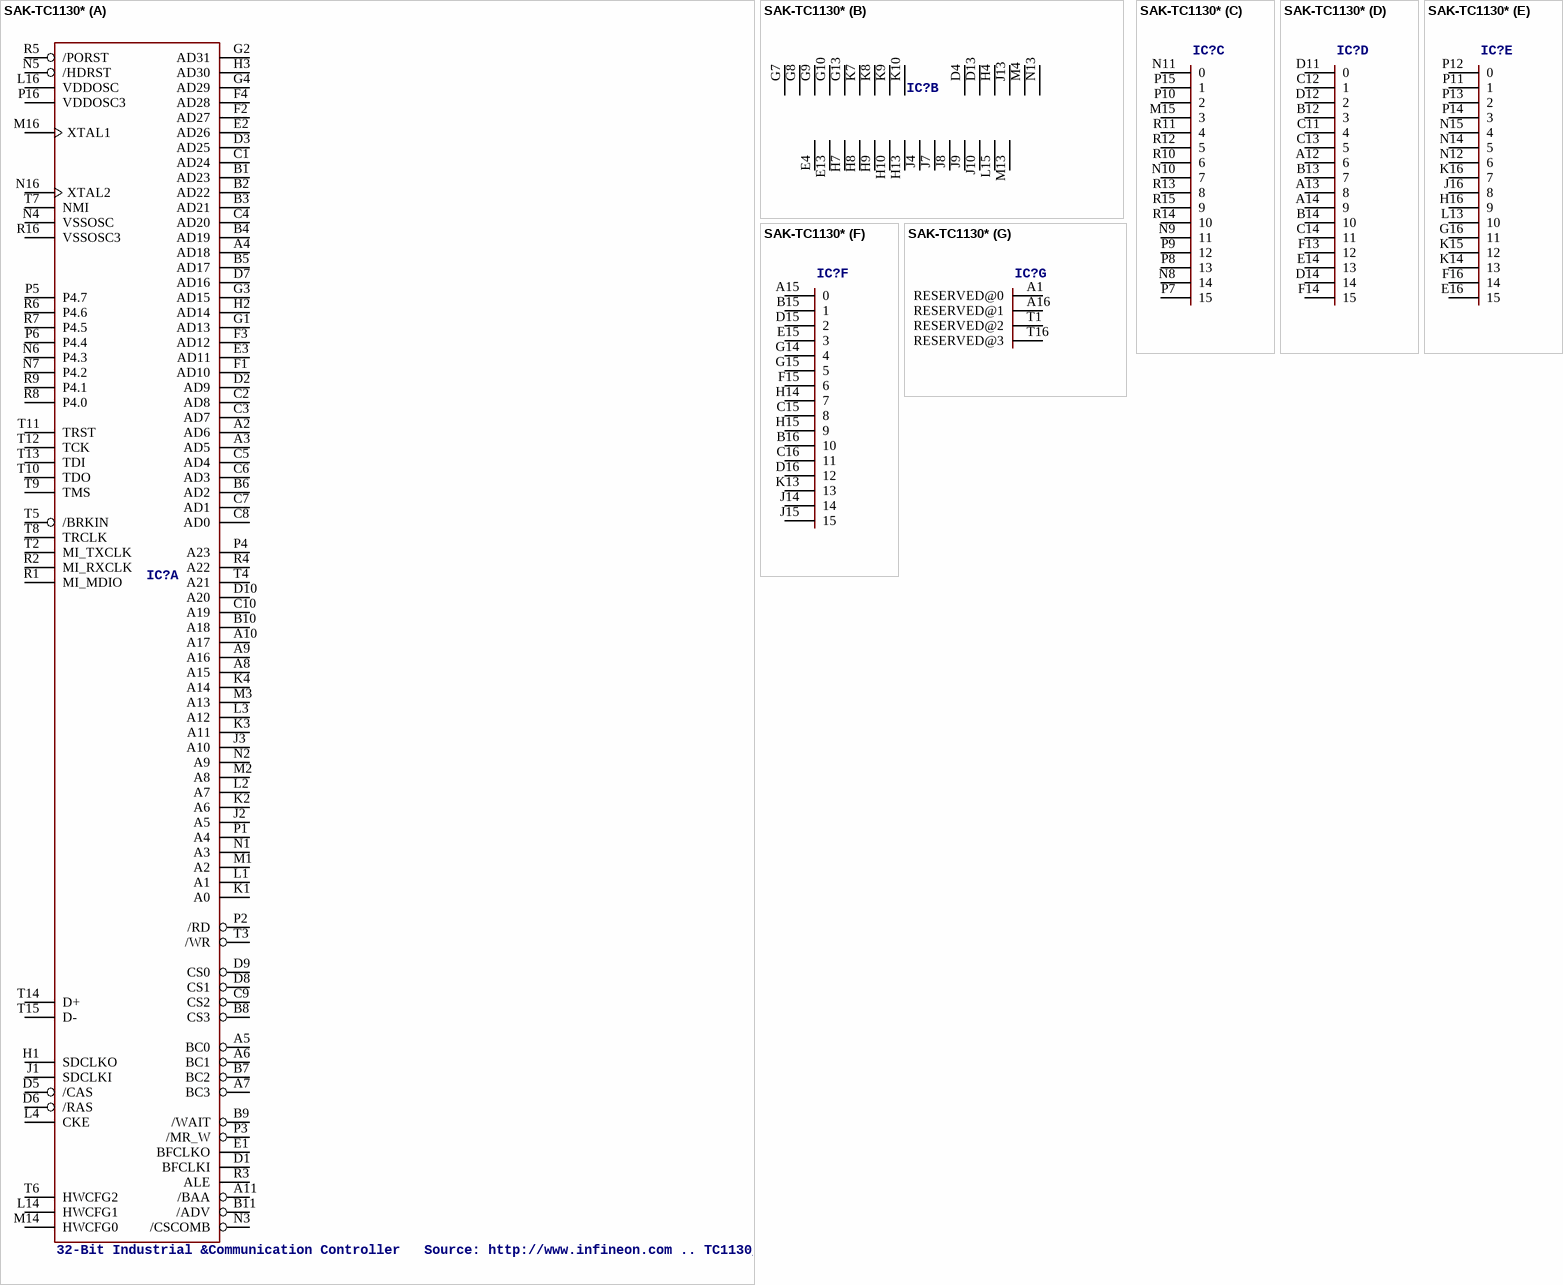
[diagram p15: symbol SAK-TC1130*]

## SAK-TC1130*
designator IC?, comment 32-Bit Industrial &Communication Controller   Source: http://www.infineon.com .. TC1130_DS_v031.pdf
OC_FARNELL: unknown; OC_NEWARK: unknown
footprint P-LBGA-208-2
part A pins: A2 AD6, A3 AD5, A4 AD18, A5 BC0, A6 BC1, A7 BC3, A8 A15, A9 A16, A10 A17, A11 /BAA, B1 AD23, B2 AD22, B3 AD21, B4 AD19, B5 AD17, B6 AD2, B7 BC2, B8 CS3, B9 /WAIT, B10 A18, B11 /ADV, C1 AD24, C2 AD8, C3 AD7, C4 AD20, C5 AD4, C6 AD3, C7 AD1, C8 AD0, C9 CS2, C10 A19, D1 BFCLKI, D2 AD9, D3 AD25, D5 /CAS, D6 /RAS, D7 AD16, D8 CS1, D9 CS0, D10 A20, E1 BFCLKO, E2 AD26, E3 AD11, F1 AD10, F2 AD27, F3 AD12, F4 AD28, G1 AD13, G2 AD31, G3 AD15, G4 AD29, H1 SDCLKO, H2 AD14, H3 AD30, J1 SDCLKI, J2 A5, J3 A10, K1 A0, K2 A6, K3 A11, K4 A14, L1 A1, L2 A7, L3 A12, L4 CKE, L14 HWCFG1, L16 VDDOSC, M1 A2, M2 A8, M3 A13, M14 HWCFG0, M16 XTAL1, N1 A3, N2 A9, N3 /CSCOMB, N4 VSSOSC, N5 /HDRST, N6 P4.3, N7 P4.2, N16 XTAL2, P1 A4, P2 /RD, P3 /MR_W, P4 A23, P5 P4.7, P6 P4.4, P16 VDDOSC3, R1 MI_MDIO, R2 MI_RXCLK, R3 ALE, R4 A22, R5 /PORST, R6 P4.6, R7 P4.5, R8 P4.0, R9 P4.1, R16 VSSOSC3, T2 MI_TXCLK, T3 /WR, T4 A21, T5 /BRKIN, T6 HWCFG2, T7 NMI, T8 TRCLK, T9 TMS, T10 TDO, T11 TRST, T12 TCK, T13 TDI, T14 D+, T15 D-
part B pins: D4 VDDP@0 (power), D13 VDDP@1 (power), E4 VSS@0 (power), E13 VSS@1 (power), G7 VDD@0 (power), G8 VDD@1 (power), G9 VDD@2 (power), G10 VDD@3 (power), G13 VDD@4 (power), H4 VDDP@2 (power), H7 VSS@2 (power), H8 VSS@3 (power), H9 VSS@4 (power), H10 VSS@5 (power), H13 VSS@6 (power), J4 VSS@7 (power), J7 VSS@8 (power), J8 VSS@9 (power), J9 VSS@10 (power), J10 VSS@11 (power), J13 VDDP@3 (power), K7 VDD@5 (power), K8 VDD@6 (power), K9 VDD@7 (power), K10 VDD@8 (power), L15 VSS@12 (power), M4 VDDP@4 (power), M13 VSS@13 (power), N13 VDDP@5 (power)
part C pins: M15 3, N8 14, N9 11, N10 7, N11 0, P7 15, P8 13, P9 12, P10 2, P15 1, R10 6, R11 4, R12 5, R13 8, R14 10, R15 9
part D pins: A12 6, A13 8, A14 9, B12 3, B13 7, B14 10, C11 4, C12 1, C13 5, C14 11, D11 0, D12 2, D14 14, E14 13, F13 12, F14 15
part E pins: E16 15, F16 14, G16 11, H16 9, J16 8, K14 13, K15 12, K16 7, L13 10, N12 6, N14 5, N15 4, P11 1, P12 0, P13 2, P14 3
part F pins: A15 0, B15 1, B16 10, C15 8, C16 11, D15 2, D16 12, E15 3, F15 6, G14 4, G15 5, H14 7, H15 9, J14 14, J15 15, K13 13
part G pins: A1 RESERVED@0, A16 RESERVED@1, T1 RESERVED@2, T16 RESERVED@3

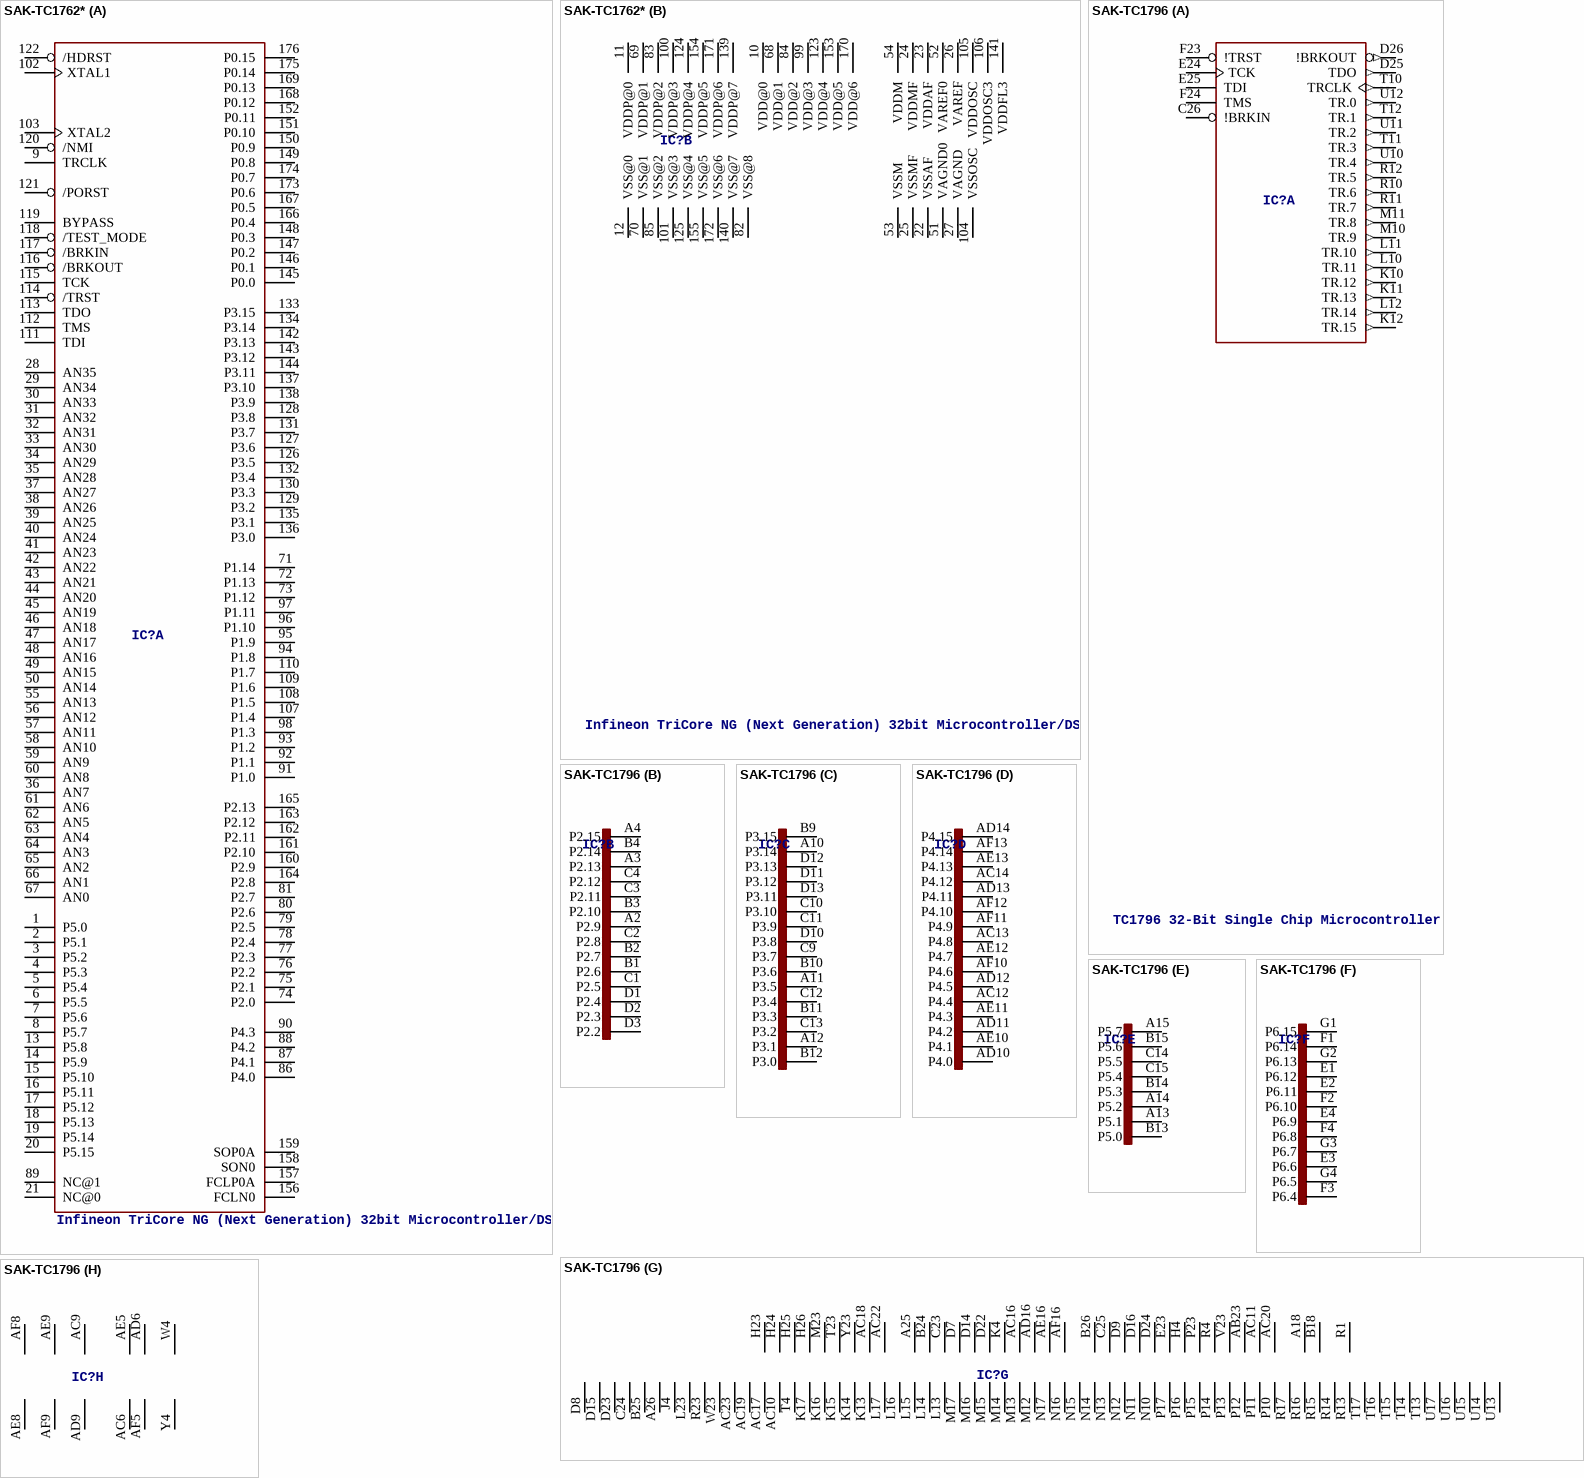
[diagram p16: symbols SAK-TC1762* to SAK-TC1796]

## SAK-TC1762*
designator IC?, comment Infineon TriCore NG (Next Generation) 32bit Microcontroller/DSP
OC_FARNELL: unknown; OC_NEWARK: unknown
footprint P-LQFP-176-2
part A pins: 1 P5.0, 2 P5.1, 3 P5.2, 4 P5.3, 5 P5.4, 6 P5.5, 7 P5.6, 8 P5.7, 9 TRCLK, 13 P5.8, 14 P5.9, 15 P5.10, 16 P5.11, 17 P5.12, 18 P5.13, 19 P5.14, 20 P5.15, 21 NC@0, 28 AN35, 29 AN34, 30 AN33, 31 AN32, 32 AN31, 33 AN30, 34 AN29, 35 AN28, 36 AN7, 37 AN27, 38 AN26, 39 AN25, 40 AN24, 41 AN23, 42 AN22, 43 AN21, 44 AN20, 45 AN19, 46 AN18, 47 AN17, 48 AN16, 49 AN15, 50 AN14, 55 AN13, 56 AN12, 57 AN11, 58 AN10, 59 AN9, 60 AN8, 61 AN6, 62 AN5, 63 AN4, 64 AN3, 65 AN2, 66 AN1, 67 AN0, 71 P1.14, 72 P1.13, 73 P1.12, 74 P2.0, 75 P2.1, 76 P2.2, 77 P2.3, 78 P2.4, 79 P2.5, 80 P2.6, 81 P2.7, 86 P4.0, 87 P4.1, 88 P4.2, 89 NC@1, 90 P4.3, 91 P1.0, 92 P1.1, 93 P1.2, 94 P1.8, 95 P1.9, 96 P1.10, 97 P1.11, 98 P1.3, 102 XTAL1, 103 XTAL2, 107 P1.4, 108 P1.5, 109 P1.6, 110 P1.7, 111 TDI, 112 TMS, 113 TDO, 114 /TRST, 115 TCK, 116 /BRKOUT, 117 /BRKIN, 118 /TEST_MODE, 119 BYPASS, 120 /NMI, 121 /PORST, 122 /HDRST, 126 P3.5, 127 P3.6, 128 P3.8, 129 P3.2, 130 P3.3, 131 P3.7, 132 P3.4, 133 P3.15, 134 P3.14, 135 P3.1, 136 P3.0, 137 P3.10, 138 P3.9, 142 P3.13, 143 P3.12, 144 P3.11, 145 P0.0, 146 P0.1, 147 P0.2, 148 P0.3, 149 P0.8, 150 P0.9, 151 P0.10, 152 P0.11, 156 FCLN0, 157 FCLP0A, 158 SON0, 159 SOP0A, 160 P2.9, 161 P2.10, 162 P2.11, 163 P2.12, 164 P2.8, 165 P2.13, 166 P0.4, 167 P0.5, 168 P0.12, 169 P0.13, 173 P0.6, 174 P0.7, 175 P0.14, 176 P0.15
part B pins: 10 VDD@0 (power), 11 VDDP@0 (power), 12 VSS@0 (power), 22 VSSAF (power), 23 VDDAF (power), 24 VDDMF (power), 25 VSSMF (power), 26 VAREF (power), 27 VAGND (power), 51 VAGND0 (power), 52 VAREF0 (power), 53 VSSM (power), 54 VDDM (power), 68 VDD@1 (power), 69 VDDP@1 (power), 70 VSS@1 (power), 82 VSS@8 (power), 83 VDDP@2 (power), 84 VDD@2 (power), 85 VSS@2 (power), 99 VDD@3 (power), 100 VDDP@3 (power), 101 VSS@3 (power), 104 VSSOSC (power), 105 VDDOSC (power), 106 VDDOSC3 (power), 123 VDD@4 (power), 124 VDDP@4 (power), 125 VSS@4 (power), 139 VDDP@7 (power), 140 VSS@7 (power), 141 VDDFL3 (power), 153 VDD@5 (power), 154 VDDP@5 (power), 155 VSS@5 (power), 170 VDD@6 (power), 171 VDDP@6 (power), 172 VSS@6 (power)

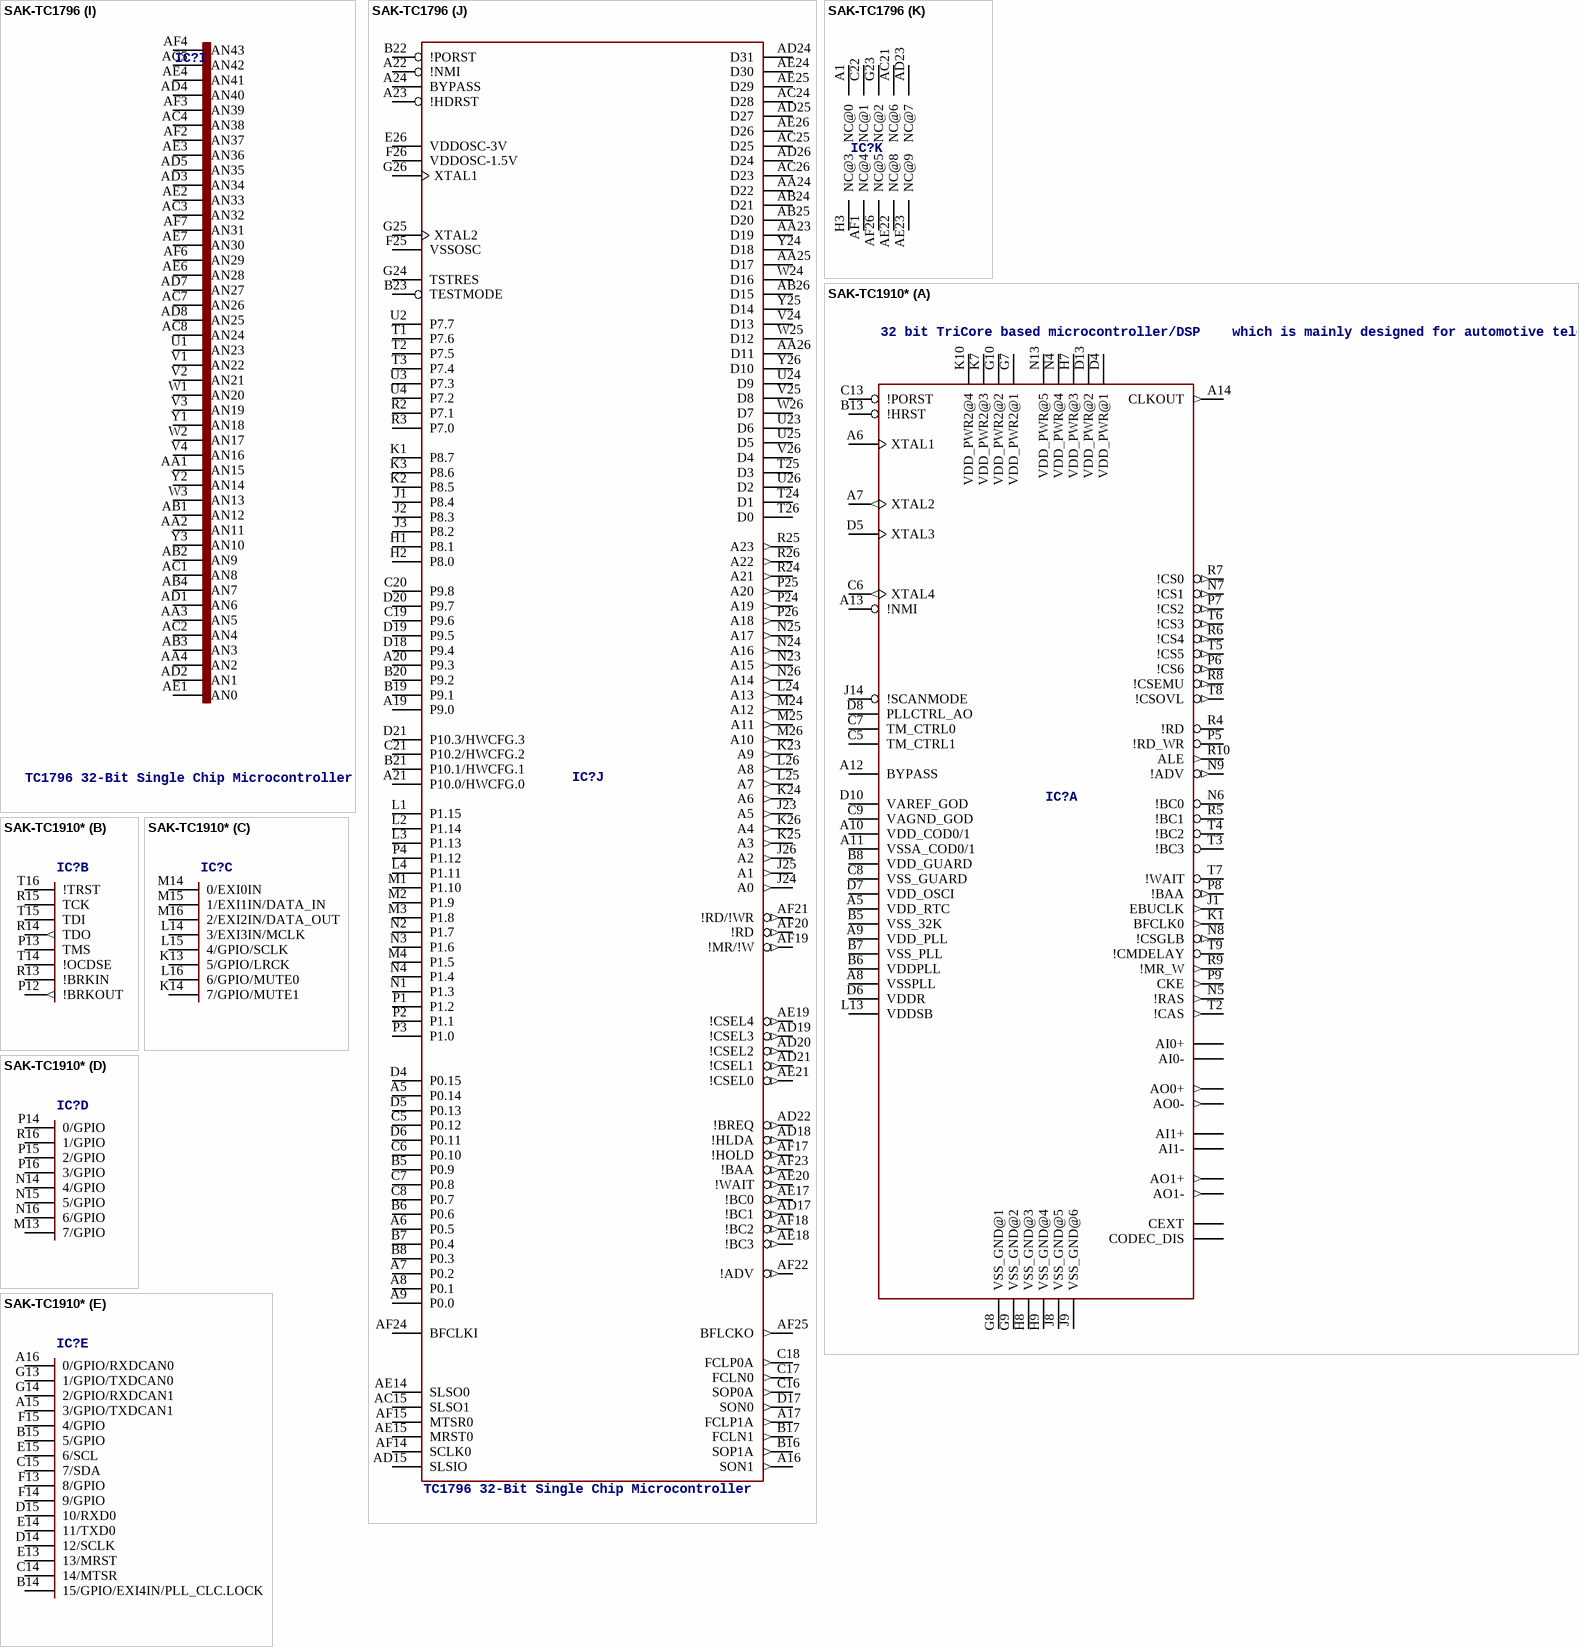
[diagram p17: symbols SAK-TC1796 to SAK-TC1910*]

## SAK-TC1796
designator IC?, comment TC1796 32-Bit Single Chip Microcontroller
OC_FARNELL: unknown; OC_NEWARK: unknown
footprint P-BGA-416
part A pins: C26 !BRKIN, D25 TDO (out), D26 !BRKOUT (out), E24 TCK, E25 TDI, F23 !TRST, F24 TMS, K10 TR.12 (out), K11 TR.13 (out), K12 TR.15 (out), L10 TR.11 (out), L11 TR.10 (out), L12 TR.14 (out), M10 TR.9 (out), M11 TR.8 (out), R10 TR.6 (out), R11 TR.7 (out), R12 TR.5 (out), T10 TRCLK (out), T11 TR.3 (out), T12 TR.1 (out), U10 TR.4 (out), U11 TR.2 (out), U12 TR.0 (out)
part B pins: A2 P2.9, A3 P2.13, A4 P2.15, B1 P2.6, B2 P2.7, B3 P2.10, B4 P2.14, C1 P2.5, C2 P2.8, C3 P2.11, C4 P2.12, D1 P2.4, D2 P2.3, D3 P2.2
part C pins: A10 P3.14, A11 P3.5, A12 P3.1, B9 P3.15, B10 P3.6, B11 P3.3, B12 P3.0, C9 P3.7, C10 P3.10, C11 P3.9, C12 P3.4, C13 P3.2, D10 P3.8, D11 P3.12, D12 P3.13, D13 P3.11
part D pins: AC12 P4.4, AC13 P4.8, AC14 P4.12, AD10 P4.0, AD11 P4.2, AD12 P4.5, AD13 P4.11, AD14 P4.15, AE10 P4.1, AE11 P4.3, AE12 P4.7, AE13 P4.13, AF10 P4.6, AF11 P4.9, AF12 P4.10, AF13 P4.14
part E pins: A13 P5.1, A14 P5.2, A15 P5.7, B13 P5.0, B14 P5.3, B15 P5.6, C14 P5.5, C15 P5.4
part F pins: E1 P6.12, E2 P6.11, E3 P6.6, E4 P6.9, F1 P6.14, F2 P6.10, F3 P6.4, F4 P6.8, G1 P6.15, G2 P6.13, G3 P6.7, G4 P6.5
part G pins: A18 VDDFL3@0 (power), A25 VDDP@0 (power), A26 VSS@5 (power), AB23 VDD@10 (power), AC10 VSS@13 (power), AC11 VDD@11 (power), AC16 VDDP@7 (power), AC17 VSS@12 (power), AC18 VDDEBU@7 (power), AC19 VSS@11 (power), AC20 VDD@12 (power), AC22 VDDEBU@8 (power), AC23 VSS@10 (power), AD16 VDDP@8 (power), AE16 VDDP@9 (power), AF16 VDDP@10 (power), B18 VDDFL3@1 (power), B24 VDDP@1 (power), B25 VSS@4 (power), B26 VDD@0 (power), C23 VDDP@2 (power), C24 VSS@3 (power), C25 VDD@1 (power), D7 VDDP@3 (power), D8 VSS@0 (power), D9 VDD@2 (power), D14 VDDP@4 (power), D15 VSS@1 (power), D16 VDD@3 (power), D22 VDDP@5 (power), D23 VSS@2 (power), D24 VDD@4 (power), E23 VDD@5 (power), H4 VDD@6 (power), H23 VDDEBU@0 (power), H24 VDDEBU@1 (power), H25 VDDEBU@2 (power), H26 VDDEBU@3 (power), J4 VSS@6 (power), K4 VDDP@6 (power), K13 VSS@19 (power), K14 VSS@18 (power), K15 VSS@17 (power), K16 VSS@16 (power), K17 VSS@15 (power), L13 VSS@24 (power), L14 VSS@23 (power), L15 VSS@22 (power), L16 VSS@21 (power), L17 VSS@20 (power), L23 VSS@7 (power), M12 VSS@30 (power), M13 VSS@29 (power), M14 VSS@28 (power), M15 VSS@27 (power), M16 VSS@26 (power), M17 VSS@25 (power), M23 VDDEBU@4 (power), N10 VSS@38 (power), N11 VSS@37 (power), N12 VSS@36 (power), N13 VSS@35 (power), N14 VSS@34 (power), N15 VSS@33 (power), N16 VSS@32 (power), N17 VSS@31 (power), P10 VSS@46 (power), P11 VSS@45 (power), P12 VSS@44 (power), P13 VSS@43 (power), P14 VSS@42 (power), P15 VSS@41 (power), P16 VSS@40 (power), P17 VSS@39 (power), P23 VDD@7 (power), R1 VDDSBRAM (power), R4 VDD@8 (power), R13 VSS@51 (power), R14 VSS@50 (power), R15 VSS@49 (power), R16 VSS@48 (power), R17 VSS@47 (power), R23 VSS@8 (power), T4 VSS@14 (power), T13 VSS@56 (power), T14 VSS@55 (power), T15 VSS@54 (power), T16 VSS@53 (power), T17 VSS@52 (power), T23 VDDEBU@5 (power), U13 VSS@61 (power), U14 VSS@60 (power), U15 VSS@59 (power), U16 VSS@58 (power), U17 VSS@57 (power), V23 VDD@9 (power), W23 VSS@9 (power), Y23 VDDEBU@6 (power)
part H pins: AC6 VAGND@0 (power), AC9 VDDAF@0 (power), AD6 VAREF@1 (power), AD9 VSSAF@0 (power), AE5 VAREF@0 (power), AE8 VFAGND@0 (power), AE9 VDDMF@0 (power), AF5 VAGND@1 (power), AF8 VFAREF@0 (power), AF9 VSSMF@0 (power), W4 VDDM@0 (power), Y4 VSSM@0 (power)
part I pins: AA1 AN15, AA2 AN11, AA3 AN5, AA4 AN2, AB1 AN12, AB2 AN9, AB3 AN3, AB4 AN7, AC1 AN8, AC2 AN4, AC3 AN32, AC4 AN38, AC5 AN42, AC7 AN26, AC8 AN24, AD1 AN6, AD2 AN1, AD3 AN34, AD4 AN40, AD5 AN35, AD7 AN27, AD8 AN25, AE1 AN0, AE2 AN33, AE3 AN36, AE4 AN41, AE6 AN28, AE7 AN30, AF2 AN37, AF3 AN39, AF4 AN43, AF6 AN29, AF7 AN31, U1 AN23, V1 AN22, V2 AN21, V3 AN19, V4 AN16, W1 AN20, W2 AN17, W3 AN13, Y1 AN18, Y2 AN14, Y3 AN10
part J pins: A5 P0.14, A6 P0.5, A7 P0.2, A8 P0.1, A9 P0.0, A16 SON1 (out), A17 FCLP1A (out), A19 P9.0, A20 P9.3, A21 P10.0/HWCFG.0, A22 !NMI, A23 !HDRST, A24 BYPASS, AA23 D19 (hiz), AA24 D22 (hiz), AA25 D17 (hiz), AA26 D11 (hiz), AB24 D21 (hiz), AB25 D20 (hiz), AB26 D15 (hiz), AC15 SLSO1, AC24 D28 (hiz), AC25 D25 (hiz), AC26 D23 (hiz), AD15 SLSIO, AD17 !BC1 (out), AD18 !HLDA (out), AD19 !CSEL3 (out), AD20 !CSEL2 (out), AD21 !CSEL1 (out), AD22 !BREQ (out), AD24 D31 (hiz), AD25 D27 (hiz), AD26 D24 (hiz), AE14 SLSO0, AE15 MRST0, AE17 !BC0 (out), AE18 !BC3 (out), AE19 !CSEL4 (out), AE20 !WAIT (out), AE21 !CSEL0 (out), AE24 D30 (hiz), AE25 D29 (hiz), AE26 D26 (hiz), AF14 SCLK0, AF15 MTSR0, AF17 !HOLD (out), AF18 !BC2 (out), AF19 !MR/!W (out), AF20 !RD (out), AF21 !RD/!WR (out), AF22 !ADV (out), AF23 !BAA (out), AF24 BFCLKI, AF25 BFLCKO (out), B5 P0.9, B6 P0.6, B7 P0.4, B8 P0.3, B16 SOP1A (out), B17 FCLN1 (out), B19 P9.1, B20 P9.2, B21 P10.1/HWCFG.1, B22 !PORST, B23 TESTMODE, C5 P0.12, C6 P0.10, C7 P0.8, C8 P0.7, C16 SOP0A (out), C17 FCLN0 (out), C18 FCLP0A (out), C19 P9.6, C20 P9.8, C21 P10.2/HWCFG.2, D4 P0.15, D5 P0.13, D6 P0.11, D17 SON0 (out), D18 P9.4, D19 P9.5, D20 P9.7, D21 P10.3/HWCFG.3, E26 VDDOSC-3V, F25 VSSOSC, F26 VDDOSC-1.5V, G24 TSTRES, G25 XTAL2, G26 XTAL1, H1 P8.1, H2 P8.0, J1 P8.4, J2 P8.3, J3 P8.2, J23 A5 (out), J24 A0 (out), J25 A1 (out), J26 A2 (out), K1 P8.7, K2 P8.5, K3 P8.6, K23 A9 (out), K24 A6 (out), K25 A3 (out), K26 A4 (out), L1 P1.15, L2 P1.14, L3 P1.13, L4 P1.11, L24 A13 (out), L25 A7 (out), L26 A8 (out), M1 P1.10, M2 P1.9, M3 P1.8, M4 P1.5, M24 A12 (out), M25 A11 (out), M26 A10 (out), N1 P1.3, N2 P1.7, N3 P1.6, N4 P1.4, N23 A15 (out), N24 A16 (out), N25 A17 (out), N26 A14 (out), P1 P1.2, P2 P1.1, P3 P1.0, P4 P1.12, P24 A19 (out), P25 A20 (out), P26 A18 (out), R2 P7.1, R3 P7.0, R24 A21 (out), R25 A23 (out), R26 A22 (out), T1 P7.6, T2 P7.5, T3 P7.4, T24 D1 (hiz), T25 D3 (hiz), T26 D0 (hiz), U2 P7.7, U3 P7.3, U4 P7.2, U23 D6 (hiz), U24 D9 (hiz), U25 D5 (hiz), U26 D2 (hiz), V24 D13 (hiz), V25 D8 (hiz), V26 D4 (hiz), W24 D16 (hiz), W25 D12 (hiz), W26 D7 (hiz), Y24 D18 (hiz), Y25 D14 (hiz), Y26 D10 (hiz)
part K pins: A1 NC@0, AC21 NC@6, AD23 NC@7, AE22 NC@8, AE23 NC@9, AF1 NC@4, AF26 NC@5, C22 NC@1, G23 NC@2, H3 NC@3

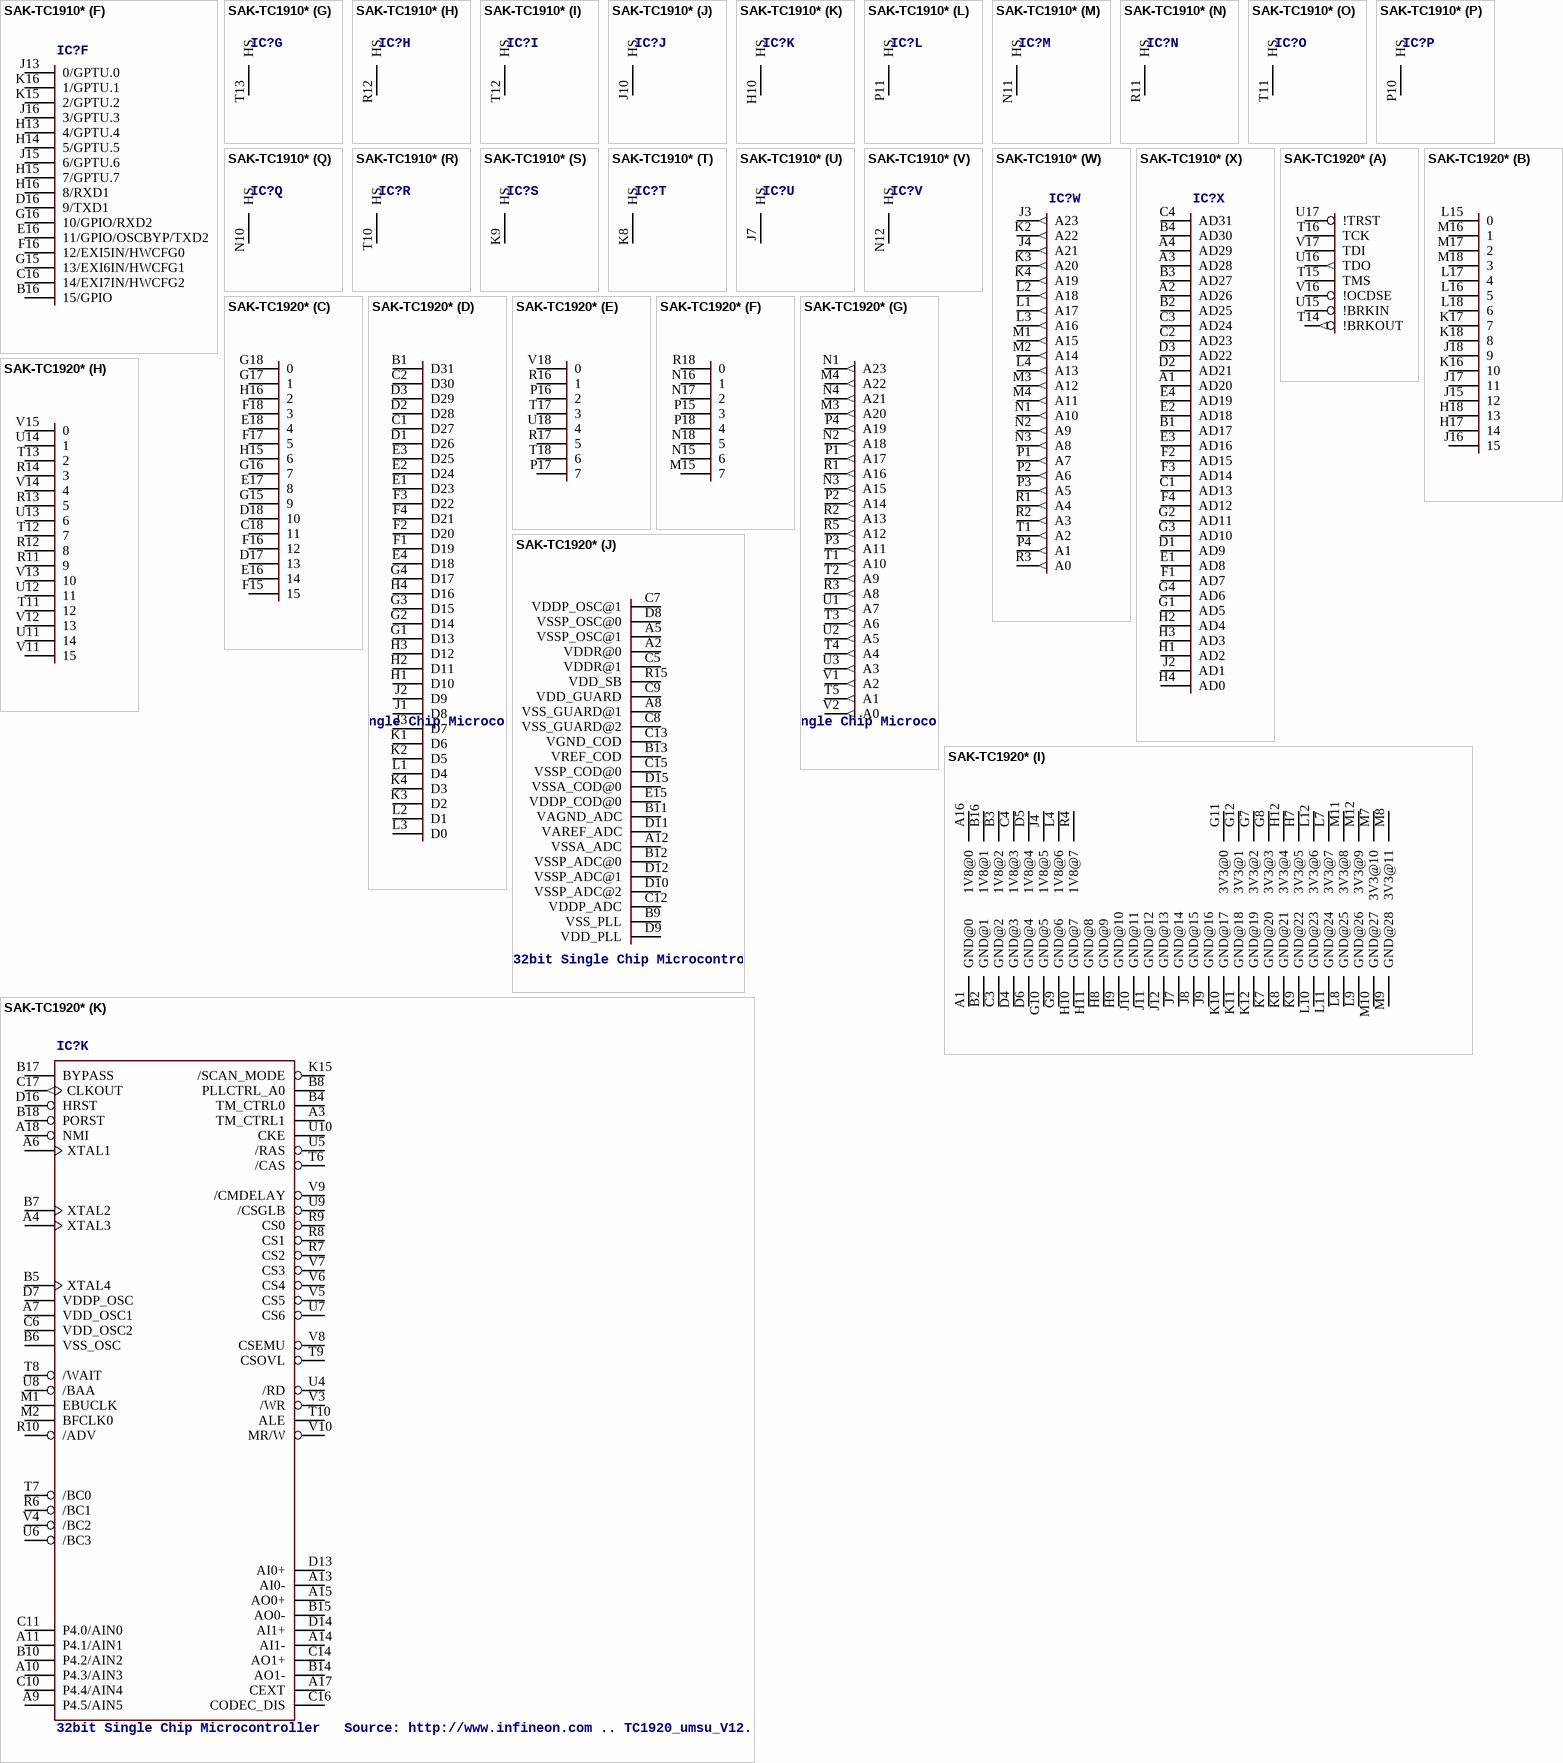
[diagram p18: symbols SAK-TC1910* to SAK-TC1920*]

## SAK-TC1910*
designator IC?, comment 32 bit TriCore based microcontroller/DSP    which is mainly designed for automotive telematics applications. Source: http://www.infineon.com .. TC1910_DS_V1.0.pdf / TC1912_DS_V1.0.pdf
OC_FARNELL: unknown; OC_NEWARK: unknown
footprint P-LBGA-208-2
part A pins: A5 VDD_RTC, A6 XTAL1, A7 XTAL2 (out), A8 VSSPLL, A9 VDD_PLL, A10 VDD_COD0/1, A11 VSSA_COD0/1, A12 BYPASS, A13 !NMI, A14 CLKOUT (out), B5 VSS_32K, B6 VDDPLL, B7 VSS_PLL, B8 VDD_GUARD, B9 AI0-, B10 AI1-, B11 AO1+ (out), B12 AO0- (out), B13 !HRST, C5 TM_CTRL1, C6 XTAL4 (out), C7 TM_CTRL0, C8 VSS_GUARD, C9 VAGND_GOD, C10 AI1+, C11 AO0+ (out), C12 CODEC_DIS, C13 !PORST, D4 VDD_PWR@1, D5 XTAL3, D6 VDDR, D7 VDD_OSCI, D8 PLLCTRL_AO, D9 AI0+, D10 VAREF_GOD, D11 AO1- (out), D12 CEXT, D13 VDD_PWR@2, G7 VDD_PWR2@1, G8 VSS_GND@1, G9 VSS_GND@2, G10 VDD_PWR2@2, H7 VDD_PWR@3, H8 VSS_GND@3, H9 VSS_GND@4, J1 EBUCLK (out), J8 VSS_GND@5, J9 VSS_GND@6, J14 !SCANMODE, K1 BFCLK0 (out), K7 VDD_PWR2@3, K10 VDD_PWR2@4, L13 VDDSB, N4 VDD_PWR@4, N5 !RAS (out), N6 !BC0, N7 !CS1 (out), N8 !CSGLB (out), N9 !ADV (out), N13 VDD_PWR@5, P5 !RD_WR, P6 !CS6 (out), P7 !CS2 (out), P8 !BAA (out), P9 CKE (out), R4 !RD, R5 !BC1, R6 !CS4 (out), R7 !CS0 (out), R8 !CSEMU (out), R9 !MR_W (out), R10 ALE (out), T2 !CAS (out), T3 !BC3, T4 !BC2, T5 !CS5 (out), T6 !CS3 (out), T7 !WAIT, T8 !CSOVL (out), T9 !CMDELAY
part B pins: P12 !BRKOUT (out), P13 TMS, R13 !BRKIN, R14 TDO (out), R15 TCK, T14 !OCDSE, T15 TDI, T16 !TRST
part C pins: K13 5/GPIO/LRCK, K14 7/GPIO/MUTE1, L14 3/EXI3IN/MCLK, L15 4/GPIO/SCLK, L16 6/GPIO/MUTE0, M14 0/EXI0IN, M15 1/EXI1IN/DATA_IN, M16 2/EXI2IN/DATA_OUT
part D pins: M13 7/GPIO, N14 4/GPIO, N15 5/GPIO, N16 6/GPIO, P14 0/GPIO, P15 2/GPIO, P16 3/GPIO, R16 1/GPIO
part E pins: A15 3/GPIO/TXDCAN1, A16 0/GPIO/RXDCAN0, B14 15/GPIO/EXI4IN/PLL_CLC.LOCK, B15 5/GPIO, C14 14/MTSR, C15 7/SDA, D14 12/SCLK, D15 10/RXD0, E13 13/MRST, E14 11/TXD0, E15 6/SCL, F13 8/GPIO, F14 9/GPIO, F15 4/GPIO, G13 1/GPIO/TXDCAN0, G14 2/GPIO/RXDCAN1
part F pins: B16 15/GPIO, C16 14/EXI7IN/HWCFG2, D16 9/TXD1, E16 11/GPIO/OSCBYP/TXD2, F16 12/EXI5IN/HWCFG0, G15 13/EXI6IN/HWCFG1, G16 10/GPIO/RXD2, H13 4/GPTU.4, H14 5/GPTU.5, H15 7/GPTU.7, H16 8/RXD1, J13 0/GPTU.0, J15 6/GPTU.6, J16 3/GPTU.3, K15 2/GPTU.2, K16 1/GPTU.1
part G pins: T13 HS
part H pins: R12 HS
part I pins: T12 HS
part J pins: J10 HS
part K pins: H10 HS
part L pins: P11 HS
part M pins: N11 HS
part N pins: R11 HS
part O pins: T11 HS
part P pins: P10 HS
part Q pins: N10 HS
part R pins: T10 HS
part S pins: K9 HS
part T pins: K8 HS
part U pins: J7 HS
part V pins: N12 HS
part W pins: J3 A23 (out), J4 A21 (out), K2 A22 (out), K3 A20 (out), K4 A19 (out), L1 A17 (out), L2 A18 (out), L3 A16 (out), L4 A13 (out), M1 A15 (out), M2 A14 (out), M3 A12 (out), M4 A11 (out), N1 A10 (out), N2 A9 (out), N3 A8 (out), P1 A7 (out), P2 A6 (out), P3 A5 (out), P4 A1 (out), R1 A4 (out), R2 A3 (out), R3 A0 (out), T1 A2 (out)
part X pins: A1 AD20, A2 AD26, A3 AD28, A4 AD29, B1 AD17, B2 AD25, B3 AD27, B4 AD30, C1 AD13, C2 AD23, C3 AD24, C4 AD31, D1 AD9, D2 AD21, D3 AD22, E1 AD8, E2 AD18, E3 AD16, E4 AD19, F1 AD7, F2 AD15, F3 AD14, F4 AD12, G1 AD5, G2 AD11, G3 AD10, G4 AD6, H1 AD2, H2 AD4, H3 AD3, H4 AD0, J2 AD1

## SAK-TC1920*
designator IC?, comment 32bit Single Chip Microcontroller   Source: http://www.infineon.com .. TC1920_umsu_V12.pdf
OC_FARNELL: unknown; OC_NEWARK: unknown
footprint P-LBGA-260
part A pins: T14 !BRKOUT (out), T15 TMS, T16 TCK, U15 !BRKIN, U16 TDO (out), U17 !TRST, V16 !OCDSE, V17 TDI
part B pins: H17 14, H18 13, J15 12, J16 15, J17 11, J18 9, K16 10, K17 7, K18 8, L15 0, L16 5, L17 4, L18 6, M16 1, M17 2, M18 3
part C pins: C18 11, D17 13, D18 10, E16 14, E17 8, E18 4, F15 15, F16 12, F17 5, F18 3, G15 9, G16 7, G17 1, G18 0, H15 6, H16 2
part D pins: B1 D31, C1 D27, C2 D30, D1 D26, D2 D28, D3 D29, E1 D23, E2 D24, E3 D25, E4 D18, F1 D19, F2 D20, F3 D22, F4 D21, G1 D13, G2 D14, G3 D15, G4 D17, H1 D10, H2 D11, H3 D12, H4 D16, J1 D8, J2 D9, J3 D7, K1 D6, K2 D5, K3 D2, K4 D3, L1 D4, L2 D1, L3 D0
part E pins: P16 2, P17 7, R16 1, R17 5, T17 3, T18 6, U18 4, V18 0
part F pins: M15 7, N15 6, N16 1, N17 2, N18 5, P15 3, P18 4, R18 0
part G pins: M3 A20 (out), M4 A22 (out), N1 A23 (out), N2 A18 (out), N3 A15 (out), N4 A21 (out), P1 A17 (out), P2 A14 (out), P3 A11 (out), P4 A19 (out), R1 A16 (out), R2 A13 (out), R3 A8 (out), R5 A12 (out), T1 A10 (out), T2 A9 (out), T3 A6 (out), T4 A4 (out), T5 A1 (out), U1 A7 (out), U2 A5 (out), U3 A3 (out), V1 A2 (out), V2 A0 (out)
part H pins: R11 9, R12 8, R13 5, R14 3, T11 12, T12 7, T13 2, U11 14, U12 11, U13 6, U14 1, V11 15, V12 13, V13 10, V14 4, V15 0
part I pins: A1 GND@0 (power), A16 1V8@0 (power), B2 GND@1 (power), B3 1V8@2 (power), B16 1V8@1 (power), C3 GND@2 (power), C4 1V8@3 (power), D4 GND@3 (power), D5 1V8@4 (power), D6 GND@4 (power), G7 3V3@2 (power), G8 3V3@3 (power), G9 GND@6 (power), G10 GND@5 (power), G11 3V3@0 (power), G12 3V3@1 (power), H7 3V3@5 (power), H8 GND@9 (power), H9 GND@10 (power), H10 GND@7 (power), H11 GND@8 (power), H12 3V3@4 (power), J4 1V8@5 (power), J7 GND@14 (power), J8 GND@15 (power), J9 GND@16 (power), J10 GND@11 (power), J11 GND@12 (power), J12 GND@13 (power), K7 GND@20 (power), K8 GND@21 (power), K9 GND@22 (power), K10 GND@17 (power), K11 GND@18 (power), K12 GND@19 (power), L4 1V8@6 (power), L7 3V3@7 (power), L8 GND@25 (power), L9 GND@26 (power), L10 GND@23 (power), L11 GND@24 (power), L12 3V3@6 (power), M7 3V3@10 (power), M8 3V3@11 (power), M9 GND@28 (power), M10 GND@27 (power), M11 3V3@8 (power), M12 3V3@9 (power), R4 1V8@7 (power)
part J pins: A2 VDDR@0 (power), A5 VSSP_OSC@1 (power), A8 VSS_GUARD@1 (power), A12 VSSA_ADC (power), B9 VSS_PLL (power), B11 VAGND_ADC (power), B12 VSSP_ADC@0 (power), B13 VREF_COD (power), C5 VDDR@1 (power), C7 VDDP_OSC@1 (power), C8 VSS_GUARD@2 (power), C9 VDD_GUARD (power), C12 VDDP_ADC (power), C13 VGND_COD (power), C15 VSSP_COD@0 (power), D8 VSSP_OSC@0 (power), D9 VDD_PLL (power), D10 VSSP_ADC@2 (power), D11 VAREF_ADC (power), D12 VSSP_ADC@1 (power), D15 VSSA_COD@0 (power), E15 VDDP_COD@0 (power), R15 VDD_SB (power)
part K pins: A3 TM_CTRL1, A4 XTAL3, A6 XTAL1, A7 VDD_OSC1 (power), A9 P4.5/AIN5, A10 P4.3/AIN3, A11 P4.1/AIN1, A13 AI0-, A14 AI1-, A15 AO0+, A17 CEXT, A18 NMI, B4 TM_CTRL0, B5 XTAL4, B6 VSS_OSC (power), B7 XTAL2, B8 PLLCTRL_A0, B10 P4.2/AIN2, B14 AO1-, B15 AO0-, B17 BYPASS, B18 PORST, C6 VDD_OSC2 (power), C10 P4.4/AIN4, C11 P4.0/AIN0, C14 AO1+, C16 CODEC_DIS, C17 CLKOUT (out), D7 VDDP_OSC (power), D13 AI0+, D14 AI1+, D16 HRST, K15 /SCAN_MODE, M1 EBUCLK, M2 BFCLK0, R6 /BC1, R7 CS2, R8 CS1, R9 CS0, R10 /ADV (power), T6 /CAS, T7 /BC0, T8 /WAIT, T9 CSOVL, T10 ALE, U4 /RD, U5 /RAS, U6 /BC3, U7 CS6, U8 /BAA, U9 /CSGLB, U10 CKE, V3 /WR, V4 /BC2, V5 CS5, V6 CS4, V7 CS3, V8 CSEMU, V9 /CMDELAY, V10 MR/W

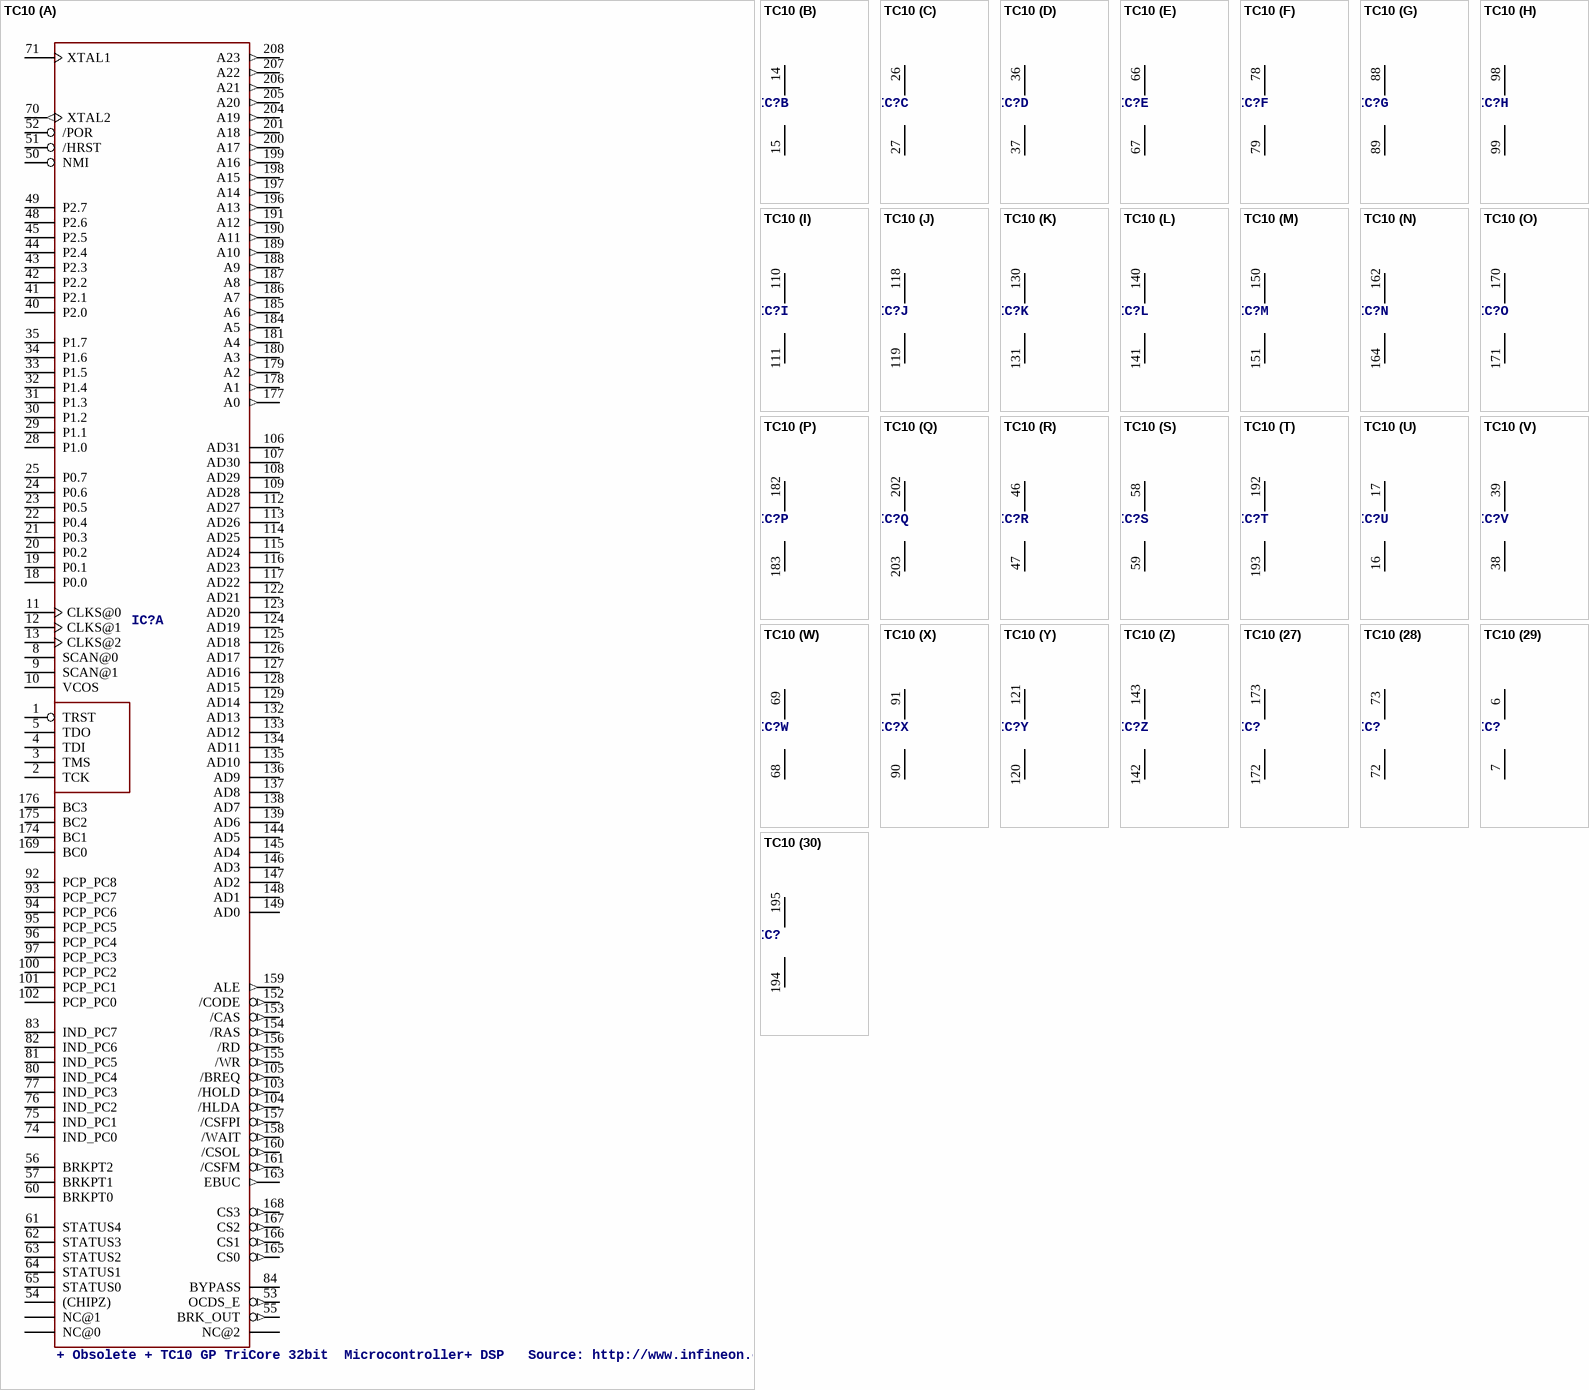
[diagram p19: symbol TC10]

## TC10
designator IC?, comment + Obsolete + TC10 GP TriCore 32bit  Microcontroller+ DSP   Source: http://www.infineon.com ..
OC_FARNELL: unknown; OC_NEWARK: unknown
footprint FQFP208-2
part A pins: 1 TRST, 2 TCK, 3 TMS, 4 TDI, 5 TDO, 8 SCAN@0, 9 SCAN@1, 10 VCOS, 11 CLKS@0, 12 CLKS@1, 13 CLKS@2, 18 P0.0, 19 P0.1, 20 P0.2, 21 P0.3, 22 P0.4, 23 P0.5, 24 P0.6, 25 P0.7, 28 P1.0, 29 P1.1, 30 P1.2, 31 P1.3, 32 P1.4, 33 P1.5, 34 P1.6, 35 P1.7, 40 P2.0, 41 P2.1, 42 P2.2, 43 P2.3, 44 P2.4, 45 P2.5, 48 P2.6, 49 P2.7, 50 NMI, 51 /HRST, 52 /POR, 53 OCDS_E (out), 54 (CHIPZ), 55 BRK_OUT (out), 56 BRKPT2, 57 BRKPT1, 60 BRKPT0, 61 STATUS4, 62 STATUS3, 63 STATUS2, 64 STATUS1, 65 STATUS0, 70 XTAL2 (out), 71 XTAL1, 74 IND_PC0, 75 IND_PC1, 76 IND_PC2, 77 IND_PC3, 80 IND_PC4, 81 IND_PC5, 82 IND_PC6, 83 IND_PC7, 84 BYPASS, 85 NC@0, 86 NC@1, 87 NC@2, 92 PCP_PC8, 93 PCP_PC7, 94 PCP_PC6, 95 PCP_PC5, 96 PCP_PC4, 97 PCP_PC3, 100 PCP_PC2, 101 PCP_PC1, 102 PCP_PC0, 103 /HOLD (out), 104 /HLDA (out), 105 /BREQ (out), 106 AD31, 107 AD30, 108 AD29, 109 AD28, 112 AD27, 113 AD26, 114 AD25, 115 AD24, 116 AD23, 117 AD22, 122 AD21, 123 AD20, 124 AD19, 125 AD18, 126 AD17, 127 AD16, 128 AD15, 129 AD14, 132 AD13, 133 AD12, 134 AD11, 135 AD10, 136 AD9, 137 AD8, 138 AD7, 139 AD6, 144 AD5, 145 AD4, 146 AD3, 147 AD2, 148 AD1, 149 AD0, 152 /CODE (out), 153 /CAS (out), 154 /RAS (out), 155 /WR (out), 156 /RD (out), 157 /CSFPI (out), 158 /WAIT (out), 159 ALE (out), 160 /CSOL (out), 161 /CSFM (out), 163 EBUC (out), 165 CS0 (out), 166 CS1 (out), 167 CS2 (out), 168 CS3 (out), 169 BC0, 174 BC1, 175 BC2, 176 BC3, 177 A0 (out), 178 A1 (out), 179 A2 (out), 180 A3 (out), 181 A4 (out), 184 A5 (out), 185 A6 (out), 186 A7 (out), 187 A8 (out), 188 A9 (out), 189 A10 (out), 190 A11 (out), 191 A12 (out), 196 A13 (out), 197 A14 (out), 198 A15 (out), 199 A16 (out), 200 A17 (out), 201 A18 (out), 204 A19 (out), 205 A20 (out), 206 A21 (out), 207 A22 (out), 208 A23 (out)
part B pins: 14 VDDE (power), 15 VSSE (power)
part C pins: 26 VDDE (power), 27 VSSE (power)
part D pins: 36 VDDE (power), 37 VSSE (power)
part E pins: 66 VDDE (power), 67 VSSE (power)
part F pins: 78 VDDE (power), 79 VSSE (power)
part G pins: 88 VDDE (power), 89 VSSE (power)
part H pins: 98 VDDE (power), 99 VSSE (power)
part I pins: 110 VDDE (power), 111 VSSE (power)
part J pins: 118 VDDE (power), 119 VSSE (power)
part K pins: 130 VDDE (power), 131 VSSE (power)
part L pins: 140 VDDE (power), 141 VSSE (power)
part M pins: 150 VDDE (power), 151 VSSE (power)
part N pins: 162 VDDE (power), 164 VSSE (power)
part O pins: 170 VDDE (power), 171 VSSE (power)
part P pins: 182 VDDE (power), 183 VSSE (power)
part Q pins: 202 VDDE (power), 203 VSSE (power)
part R pins: 46 VDDE (power), 47 VSSE (power)
part S pins: 58 VDDE (power), 59 VSSE (power)
part T pins: 192 VDDE (power), 193 VSSE (power)
part U pins: 16 VSS (power), 17 VDD (power)
part V pins: 38 VSS (power), 39 VDD (power)
part W pins: 68 VSS (power), 69 VDD (power)
part X pins: 90 VSS (power), 91 VDD (power)
part Y pins: 120 VSS (power), 121 VDD (power)
part Z pins: 142 VSS (power), 143 VDD (power)
part 27 pins: 172 VSS (power), 173 VDD (power)
part 28 pins: 72 VSSP (power), 73 VDDP (power)
part 29 pins: 6 VDDE (power), 7 VSSE (power)
part 30 pins: 194 VSS (power), 195 VDD (power)

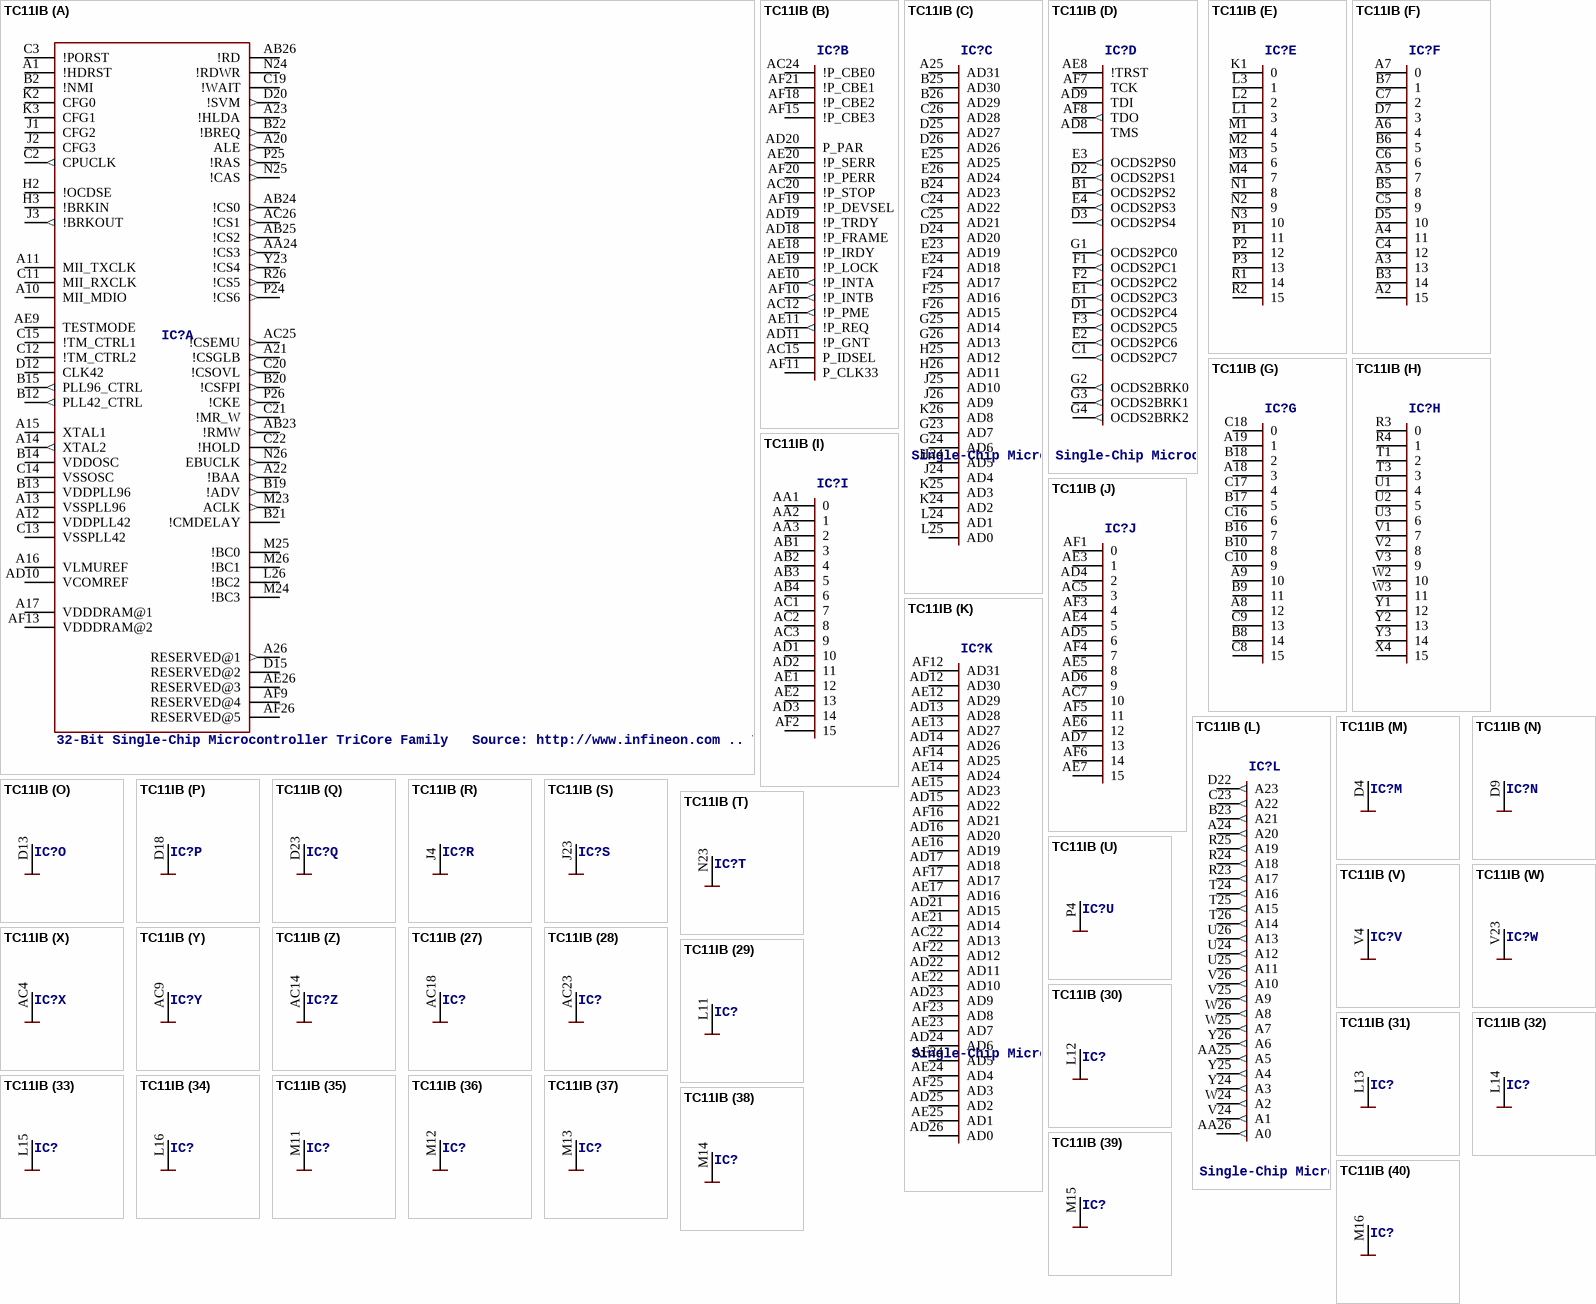
[diagram p20: symbol TC11IB]

## TC11IB
designator IC?, comment 32-Bit Single-Chip Microcontroller TriCore Family   Source: http://www.infineon.com .. TC11IB_DS_v24.pdf
OC_FARNELL: unknown; OC_NEWARK: unknown
footprint P-BGA-388-2
part A pins: A1 !HDRST, A10 MII_MDIO, A11 MII_TXCLK, A12 VDDPLL42, A13 VSSPLL96, A14 XTAL2 (out), A15 XTAL1, A16 VLMUREF, A17 VDDDRAM@1, A20 ALE (out), A21 !CSGLB (out), A22 !BAA (out), A23 !HLDA, A26 RESERVED@1 (out), AA24 !CS3 (out), AB23 !RMW (out), AB24 !CS0 (out), AB25 !CS2 (out), AB26 !RD, AC25 !CSEMU (out), AC26 !CS1 (out), AD10 VCOMREF, AE9 TESTMODE, AE26 RESERVED@3, AF9 RESERVED@4, AF13 VDDDRAM@2, AF26 RESERVED@5, B2 !NMI, B12 PLL42_CTRL (out), B13 VDDPLL96, B14 VDDOSC, B15 PLL96_CTRL (out), B19 !ADV (out), B20 !CSFPI (out), B21 !CMDELAY, B22 !BREQ (out), C2 CPUCLK (out), C3 !PORST, C11 MII_RXCLK, C12 !TM_CTRL2, C13 VSSPLL42, C14 VSSOSC, C15 !TM_CTRL1, C19 !WAIT, C20 !CSOVL (out), C21 !MR_W (out), C22 !HOLD, D12 CLK42, D15 RESERVED@2, D20 !SVM (out), H2 !OCDSE, H3 !BRKIN, J1 CFG2, J2 CFG3, J3 !BRKOUT (out), K2 CFG0, K3 CFG1, L26 !BC2, M23 ACLK (out), M24 !BC3, M25 !BC0, M26 !BC1, N24 !RDWR, N25 !CAS (out), N26 EBUCLK (out), P24 !CS6 (out), P25 !RAS (out), P26 !CKE (out), R26 !CS5 (out), Y23 !CS4 (out)
part B pins: AC12 !P_PME (out), AC15 P_IDSEL, AC20 !P_STOP, AC24 !P_CBE0, AD11 !P_GNT, AD18 !P_FRAME, AD19 !P_TRDY, AD20 P_PAR, AE10 !P_INTA (out), AE11 !P_REQ (out), AE18 !P_IRDY, AE19 !P_LOCK, AE20 !P_SERR, AF10 !P_INTB (out), AF11 P_CLK33, AF15 !P_CBE3, AF18 !P_CBE2, AF19 !P_DEVSEL, AF20 !P_PERR, AF21 !P_CBE1
part C pins: A25 AD31, B24 AD23, B25 AD30, B26 AD29, C24 AD22, C25 AD21, C26 AD28, D24 AD20, D25 AD27, D26 AD26, E23 AD19, E24 AD18, E25 AD25, E26 AD24, F24 AD17, F25 AD16, F26 AD15, G23 AD7, G24 AD6, G25 AD14, G26 AD13, H24 AD5, H25 AD12, H26 AD11, J24 AD4, J25 AD10, J26 AD9, K24 AD2, K25 AD3, K26 AD8, L24 AD1, L25 AD0
part D pins: AD8 TMS, AD9 TDI, AE8 !TRST, AF7 TCK, AF8 TDO (out), B1 OCDS2PS2 (out), C1 OCDS2PC7 (out), D1 OCDS2PC4 (out), D2 OCDS2PS1 (out), D3 OCDS2PS4 (out), E1 OCDS2PC3 (out), E2 OCDS2PC6 (out), E3 OCDS2PS0 (out), E4 OCDS2PS3 (out), F1 OCDS2PC1 (out), F2 OCDS2PC2 (out), F3 OCDS2PC5 (out), G1 OCDS2PC0 (out), G2 OCDS2BRK0 (out), G3 OCDS2BRK1 (out), G4 OCDS2BRK2 (out)
part E pins: K1 0, L1 3, L2 2, L3 1, M1 4, M2 5, M3 6, M4 7, N1 8, N2 9, N3 10, P1 11, P2 12, P3 13, R1 14, R2 15
part F pins: A2 15, A3 13, A4 11, A5 7, A6 4, A7 0, B3 14, B5 8, B6 5, B7 1, C4 12, C5 9, C6 6, C7 2, D5 10, D7 3
part G pins: A8 12, A9 10, A18 3, A19 1, B8 14, B9 11, B10 8, B16 7, B17 5, B18 2, C8 15, C9 13, C10 9, C16 6, C17 4, C18 0
part H pins: R3 0, R4 1, T1 2, T3 3, U1 4, U2 5, U3 6, V1 7, V2 8, V3 9, W2 10, W3 11, X4 15, Y1 12, Y2 13, Y3 14
part I pins: AA1 0, AA2 1, AA3 2, AB1 3, AB2 4, AB3 5, AB4 6, AC1 7, AC2 8, AC3 9, AD1 10, AD2 11, AD3 14, AE1 12, AE2 13, AF2 15
part J pins: AC5 3, AC7 10, AD4 2, AD5 6, AD6 9, AD7 13, AE3 1, AE4 5, AE5 8, AE6 12, AE7 15, AF1 0, AF3 4, AF4 7, AF5 11, AF6 14
part K pins: AC22 AD13, AD12 AD30, AD13 AD28, AD14 AD26, AD15 AD22, AD16 AD20, AD17 AD18, AD21 AD15, AD22 AD11, AD23 AD9, AD24 AD6, AD25 AD2, AD26 AD0, AE12 AD29, AE13 AD27, AE14 AD24, AE15 AD23, AE16 AD19, AE17 AD16, AE21 AD14, AE22 AD10, AE23 AD7, AE24 AD4, AE25 AD1, AF12 AD31, AF14 AD25, AF16 AD21, AF17 AD17, AF22 AD12, AF23 AD8, AF24 AD5, AF25 AD3
part L pins: A24 A20 (out), AA25 A5 (out), AA26 A0 (out), B23 A21 (out), C23 A22 (out), D22 A23 (out), R23 A17 (out), R24 A18 (out), R25 A19 (out), T24 A16 (out), T25 A15 (out), T26 A14 (out), U24 A12 (out), U25 A11 (out), U26 A13 (out), V24 A1 (out), V25 A9 (out), V26 A10 (out), W24 A2 (out), W25 A7 (out), W26 A8 (out), Y24 A3 (out), Y25 A4 (out), Y26 A6 (out)
part M pins: D4 VSS (power)
part N pins: D9 VSS (power)
part O pins: D13 VSS (power)
part P pins: D18 VSS (power)
part Q pins: D23 VSS (power)
part R pins: J4 VSS (power)
part S pins: J23 VSS (power)
part T pins: N23 VSS (power)
part U pins: P4 VSS (power)
part V pins: V4 VSS (power)
part W pins: V23 VSS (power)
part X pins: AC4 VSS (power)
part Y pins: AC9 VSS (power)
part Z pins: AC14 VSS (power)
part 27 pins: AC18 VSS (power)
part 28 pins: AC23 VSS (power)
part 29 pins: L11 VSS (power)
part 30 pins: L12 VSS (power)
part 31 pins: L13 VSS (power)
part 32 pins: L14 VSS (power)
part 33 pins: L15 VSS (power)
part 34 pins: L16 VSS (power)
part 35 pins: M11 VSS (power)
part 36 pins: M12 VSS (power)
part 37 pins: M13 VSS (power)
part 38 pins: M14 VSS (power)
part 39 pins: M15 VSS (power)
part 40 pins: M16 VSS (power)
part 41 pins: N11 VSS (power)
part 42 pins: N12 VSS (power)
part 43 pins: N13 VSS (power)
part 44 pins: N14 VSS (power)
part 45 pins: N15 VSS (power)
part 46 pins: N16 VSS (power)
part 47 pins: P11 VSS (power)
part 48 pins: P12 VSS (power)
part 49 pins: P13 VSS (power)
part 50 pins: P14 VSS (power)
part 51 pins: P15 VSS (power)
part 52 pins: P16 VSS (power)
part 53 pins: R11 VSS (power)
part 54 pins: R12 VSS (power)
part 55 pins: R13 VSS (power)
part 56 pins: R14 VSS (power)
part 57 pins: R15 VSS (power)
part 58 pins: R16 VSS (power)
part 59 pins: T11 VSS (power)
part 60 pins: T12 VSS (power)
part 61 pins: T13 VSS (power)
part 62 pins: T14 VSS (power)
part 63 pins: T15 VSS (power)
part 64 pins: T16 VSS (power)
part 65 pins: D8 VDDP (power)
part 66 pins: D11 VDDP (power)
part 67 pins: D14 VDDP (power)
part 68 pins: D16 VDDP (power)
part 69 pins: D19 VDDP (power)
part 70 pins: H4 VDDP (power)
part 71 pins: H23 VDDP (power)
part 72 pins: L4 VDDP (power)
part 73 pins: L23 VDDP (power)
part 74 pins: N4 VDDP (power)
part 75 pins: P23 VDDP (power)
part 76 pins: T4 VDDP (power)
part 77 pins: T23 VDDP (power)
part 78 pins: W4 VDDP (power)
part 79 pins: W23 VDDP (power)
part 80 pins: AC8 VDDP (power)
part 81 pins: AC11 VDDP (power)
part 82 pins: AC13 VDDP (power)
part 83 pins: AC16 VDDP (power)
part 84 pins: AC19 VDDP (power)
part 85 pins: H1 VDD (power)
part 86 pins: W1 VDD (power)
part 87 pins: T2 VDD (power)
part 88 pins: B4 VDD (power)
part 89 pins: B11 VDD (power)
part 90 pins: D6 VDD (power)
part 91 pins: F4 VDD (power)
part 92 pins: D10 VDD (power)
part 93 pins: D17 VDD (power)
part 94 pins: D21 VDD (power)
part 95 pins: F23 VDD (power)
part 96 pins: K4 VDD (power)
part 97 pins: K23 VDD (power)
part 98 pins: U4 VDD (power)
part 99 pins: U23 VDD (power)
part 100 pins: AA4 VDD (power)
part 101 pins: AA23 VDD (power)
part 102 pins: AC6 VDD (power)
part 103 pins: AC10 VDD (power)
part 104 pins: AC17 VDD (power)
part 105 pins: AC21 VDD (power)

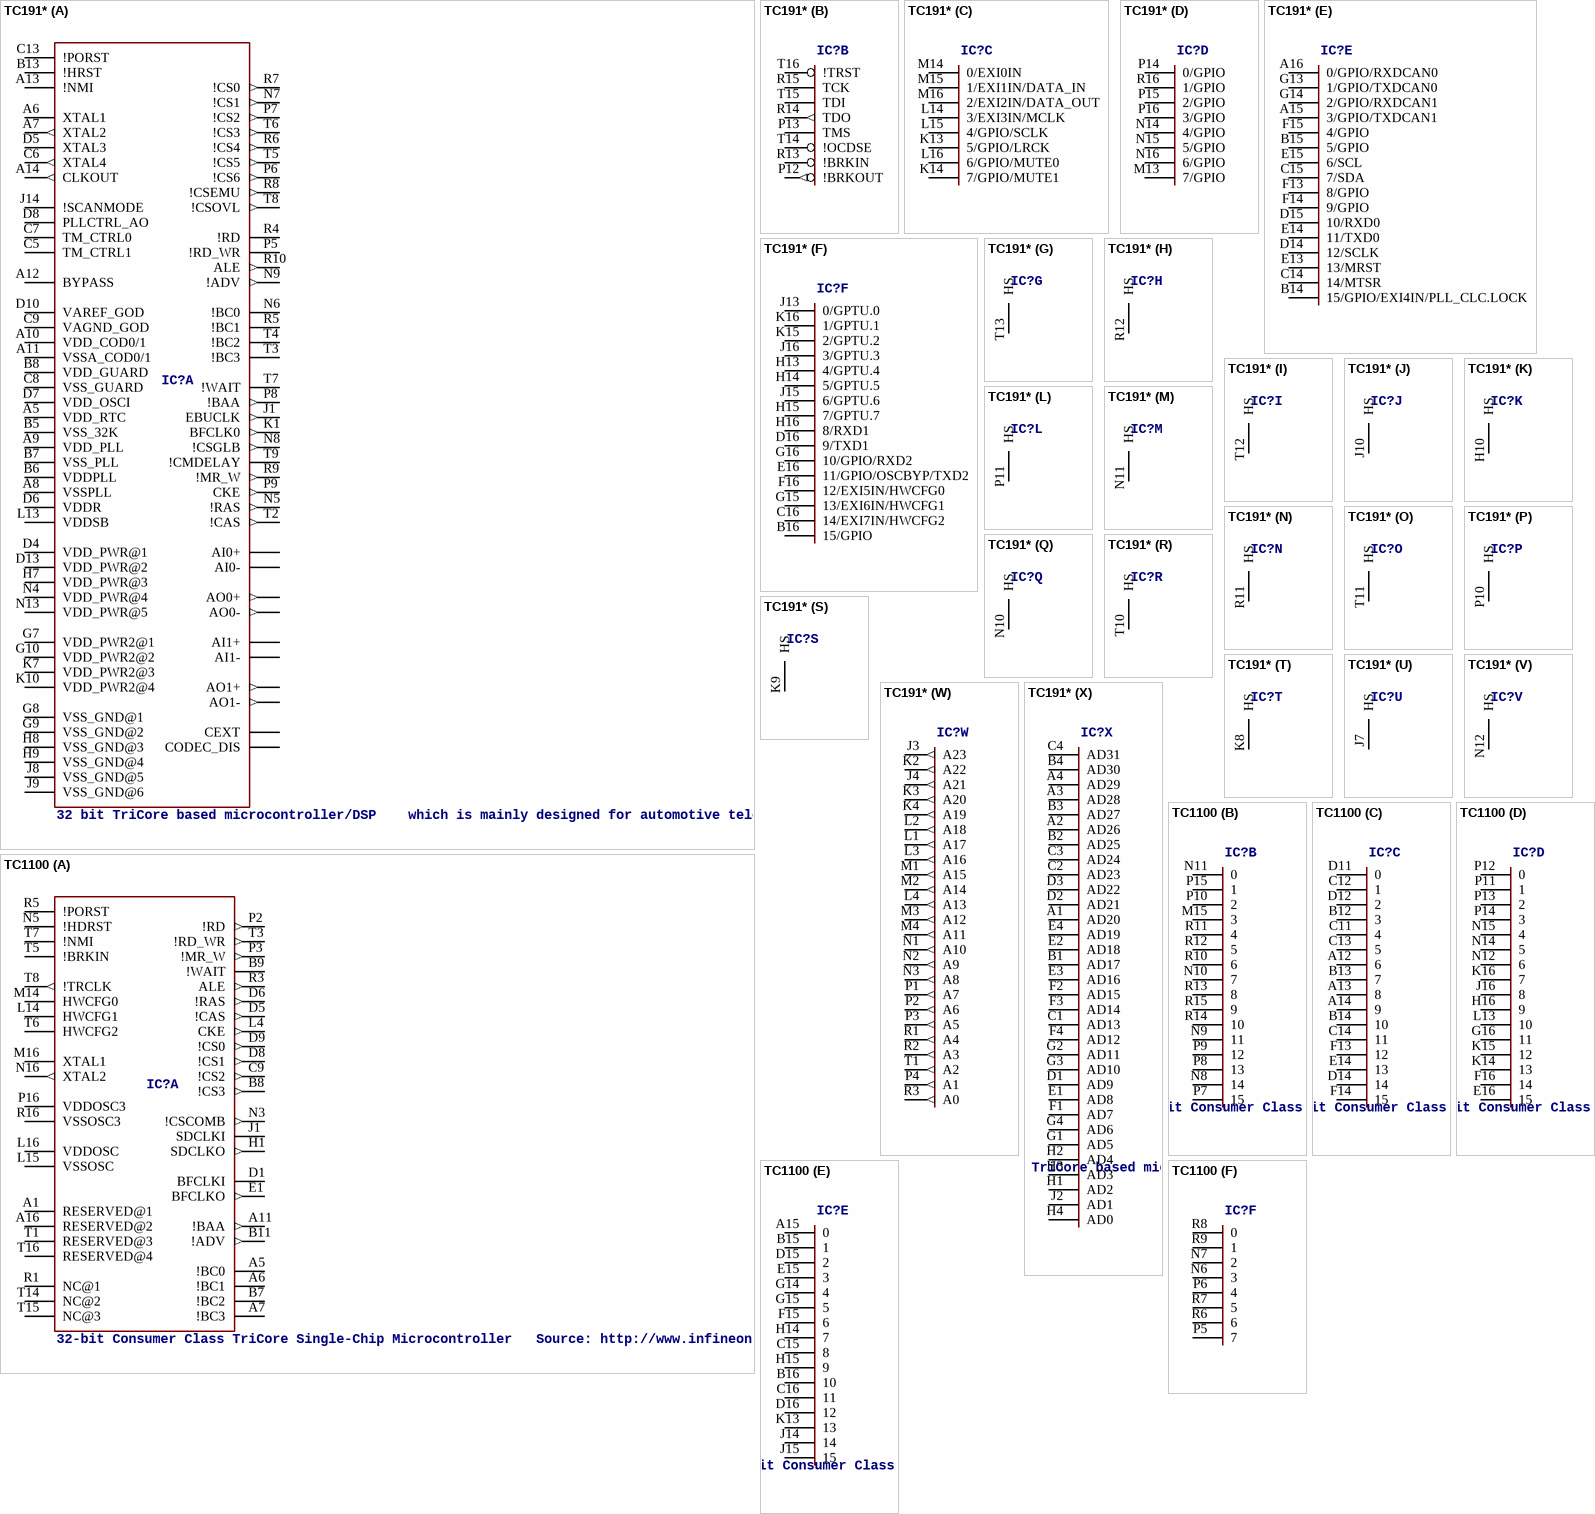
[diagram p21: symbols TC191* to TC1100]